# Altium schematic symbol library RK3568_train.SCHLIB: 159 symbols (part 2 of 3)
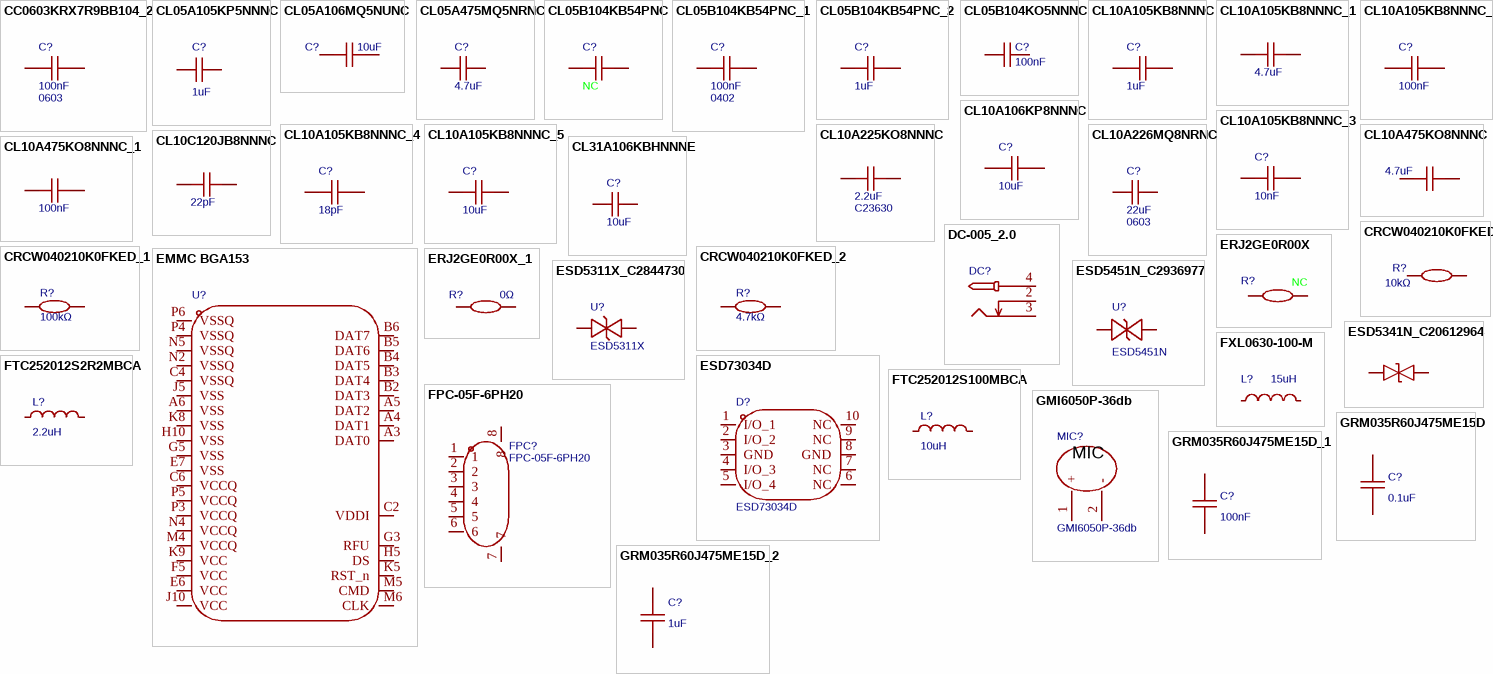
[diagram p12: symbols CC0603KRX7R9BB104_2 to GRM035R60J475ME15D_2]

## ESD73034D
designator D?
极性:双向;反向截止电压(Vrwm):3.3V;钳位电压:18V;峰值脉冲电流(Ipp):3A@8/20us;峰值脉冲功率(Ppp):60W@8/20us;击穿电压:8.5V;; Manufacturer: TECH PUBLIC(台舟); AddInBom: yes; ModelId: bdfd66bff1204c318d65223fd39cc645; ModelName: DFN-10_L2.5-W1.0-P0.50-BL-2; ModelTransform: 40.1574,98.8187,0,90,0,0,0,0,0; Polarity: 双向; Reverse Stand-Off Voltage (Vrwm): 3.3V; Clamping Voltage: 18V; Voltage - Breakdown: 8.5V; Reverse Leakage Current (Ir): 200nA; Number of Channels: 四路; level of protection: IEC 61000-4-5；IEC 61000-4-2; Type: ESD; Junction Capacitance: 0.25pF; Symbol: ESD73034D; Device: ESD73034D; LCSC Part Name: ESD73034D-10/TR; SupplierPart: C7202962; ManufacturerPart: ESD73034D; Supplier Footprint: DFN2510-10; JLCPCB Part Class: 扩展库; Datasheet: https://item.szlcsc.com/datasheet/ESD73034D/8170920.html; Supplier: LCSC; ConvertToPcb: yes; FootprintName: DFN-10_L2.5-W1.0-P0.50-BL-2; Peak Pulse Current (Ipp): 3A@8/20us; Peak Pulse Power Dissipation (Ppp): 60W@8/20us
footprint DFN-10_L2.5-W1.0-P0.50-BL-2
pins: 1 I/O_1, 2 I/O_2, 3 GND, 4 I/O_3, 5 I/O_4, 6 NC, 7 NC, 8 GND, 9 NC, 10 NC

## FPC-05F-6PH20
designator FPC?
锁定特性:翻盖式;触点类型:下接;触点数量:6P;间距:0.5mm;安装类型:卧贴;工作温度范围:-25℃~+85℃;; Manufacturer: XUNPU(讯普); 3D Model: f0153d283bb647ab8cc6ddf5c8ee15be; 3D Model Transform: 291.338,220.472,0,0,0,0,-0.001,-45.276,0; Locking Feature: 翻盖式; Number of Contacts: 6P; Pitch: 0.5mm; FFC, FCB Thickness: 0.3mm; AddInBom: yes; ModelName: FPC-SMD_6P-P0.50_XUNPU_FPC-05F-6PH20; LCSC Part Name: 间距:0.5mm P数:6P 翻盖式 下接; Supplier Part: C2856796; Manufacturer Part: FPC-05F-6PH20; Supplier Footprint: SMD,P=0.5mm,卧贴; JLCPCB Part Class: 扩展库; Datasheet: https://atta.szlcsc.com/upload/public/pdf/source/20210922/16B003FB53336DDF6538142CC465AC4D.pdf; Supplier: LCSC; Contact Type: 下接; Mounting Type: 卧贴; Height Above Board: 2mm; Operating Temperature Range: -25℃~+85℃; Symbol: FPC-05F-6PH20; Device: FPC-05F-6PH20; ConvertToPcb: yes; FootprintName: FPC-SMD_6P-P0.50_XUNPU_FPC-05F-6PH20
footprint FPC-SMD_6P-P0.50_XUNPU_FPC-05F-6PH20
3D model FPC-SMD_6P-P0.50_XUNPU_FPC-05F-6PH20
pins: 1, 2, 3, 4, 5, 6, 7, 8

## FTC252012S2R2MBCA
designator L?, comment 2.2uH
电感值:2.2uH;精度:±20%;额定电流:3A;饱和电流(Isat):3.8A;类型:一体成型电感;; Manufacturer: cjiang(长江微电); Symbol: FTC252012S2R2MBCA; AddInBom: yes; ModelId: 37a0cdb2b8b148059a23edc55a737e42; ModelName: IND-SMD_L2.5-W2.0_MHCHL2520; ModelTransform: 98.425,78.74,0,0,0,0,0,0,0; Tolerance: ±20%; Rated Current: 3A; Saturation Current (Isat): 3.8A; DC Resistance (DCR): 55mΩ; Type: 一体成型电感; Device: FTC252012S2R2MBCA; LCSC Part Name: 2.2uH ±20% 3.8A; SupplierPart: C5832372; ManufacturerPart: FTC252012S2R2MBCA; Supplier Footprint: 1008; JLCPCB Part Class: 扩展库; Datasheet: https://atta.szlcsc.com/upload/public/pdf/source/20230602/8FFEDA9C0247A92A0D4B67554BFE4091.pdf; Supplier: LCSC; ConvertToPcb: yes; FootprintName: IND-SMD_L2.5-W2.0_MHCHL2520; Value: 2.2uH
footprint IND-SMD_L2.5-W2.0_MHCHL2520
pins: 1, 2

## FTC252012S100MBCA
designator L?, comment 10uH
电感值:10uH;精度:±20%;额定电流:1.2A;饱和电流(Isat):1.6A;类型:一体成型电感;; Manufacturer: cjiang(长江微电); Symbol: FTC252012S100MBCA; AddInBom: yes; ModelId: 85d117b4abb34d9087271edcd9ba0330; ModelName: IND-SMD_L2.5-W2.0-H1.2; ModelTransform: 99.2124,78.74,0,0,0,0,0,0,0; Tolerance: ±20%; Rated Current: 1.2A; Saturation Current (Isat): 1.6A; DC Resistance (DCR): 330mΩ; Type: 一体成型电感; Device: FTC252012S100MBCA; LCSC Part Name: 10uH ±20% 1.6A; SupplierPart: C5832376; ManufacturerPart: FTC252012S100MBCA; Supplier Footprint: SMD,2x2.5mm; JLCPCB Part Class: 扩展库; Datasheet: https://atta.szlcsc.com/upload/public/pdf/source/20230602/8FFEDA9C0247A92A0D4B67554BFE4091.pdf; Supplier: LCSC; ConvertToPcb: yes; FootprintName: IND-SMD_L2.5-W2.0; Value: 10uH
footprint IND-SMD_L2.5-W2.0
pins: 1, 2

## FXL0630-100-M
designator L?, comment 15uH
电感值:10uH;精度:±20%;额定电流:4.5A;饱和电流(Isat):5.5A;类型:一体成型电感;; Manufacturer: cjiang(长江微电); Symbol: FXL0630-100-M; AddInBom: yes; ModelId: e28854526ca747668ea12fbe1dd39a63; ModelName: IND-SMD_L7.3-W6.8-H3.0; ModelTransform: 292.125,267.716,0,0,0,0,0,0,0; Tolerance: ±20%; Rated Current: 4.5A; Saturation Current (Isat): 5.5A; DC Resistance (DCR): 68mΩ; Type: 一体成型电感; Value: 15uH; Device: FXL0630-100-M; LCSC Part Name: 10uH ±20% 5.5A; ManufacturerPart: FXL0630-100-M; Supplier Footprint: SMD,6.6x7mm; JLCPCB Part Class: 扩展库; Datasheet: https://atta.szlcsc.com/upload/public/pdf/source/20240426/3189EA8206330E2108542F9E34E540E7.pdf; Supplier: LCSC; ConvertToPcb: yes; FootprintName: IND-SMD_L7.3-W6.8; Ratings: -
footprint IND-SMD_L7.3-W6.8
pins: 1, 2

## GMI6050P-36db
designator MIC?
Manufacturer: INGHAi(赢海); AddInBom: yes; ModelId: 13bff40b06b543799f1cf39aeb3f973a聨0819f05c4eef4c71ace90d822a990e87; ModelName: MIC-TH_BD6.0-P1.90-D0.4-L-FD_GMI6050P-2CXXDB; ModelTransform: 236.22,235.915,0,0,0,0,0,-0.003,-118.11; Symbol: GMI6050P-36DB; Device: GMI6050P-36db; LCSC Part Name: 全指向φ6.0*5.0mm 1.5V-10V 灵敏度-36db 低阻抗 针脚; SupplierPart: C233939; ManufacturerPart: GMI6050P-36db; Supplier Footprint: 插件,D=6mm; JLCPCB Part Class: Extended Part; Datasheet: https://atta.szlcsc.com/upload/public/pdf/source/20180613/C233951_CF3F103FE3546E5F8FCD1BC0597FF08F.pdf; Supplier: LCSC; ConvertToPcb: yes; FootprintName: MIC-TH_BD6.0-P1.90-D0.4-L-FD_GMI6050P-2CXXDB
footprint MIC-TH_BD6.0-P1.90-D0.4-L-FD_GMI6050P-2CXXDB
pins: 1 +, 2 -
text: MIC

## GRM035R60J475ME15D
designator C?, comment 0.1uF
容值:4.7uF;精度:±20%;额定电压:6.3V;温度系数:X5R;; Manufacturer: muRata(村田); Symbol: GRM035R60J475ME15D; AddInBom: yes; ModelId: e8033a7cb35143ffb28e3b81b2577ea0; ModelName: C0201_L0.6-W0.3-H0.3; ModelTransform: 23.622,11.811,0,0,0,0,0,0,0; Tolerance: ±20%; Voltage Rating: 6.3V; Temperature Coefficient: X5R; Value: 0.1uF; Device: GRM035R60J475ME15D; LCSC Part Name: 4.7uF ±20% 6.3V; ManufacturerPart: GRM035R60J475ME15D; Supplier Footprint: 0201; JLCPCB Part Class: Extended Part; Datasheet: https://item.szlcsc.com/datasheet/GRM035R60J475ME15D/313624.html; Supplier: LCSC; ConvertToPcb: yes; FootprintName: C0201
footprint C0201
pins: 1, 2

## GRM035R60J475ME15D_1
designator C?, comment 100nF
容值:4.7uF;精度:±20%;额定电压:6.3V;温度系数:X5R;; Manufacturer: muRata(村田); Symbol: GRM035R60J475ME15D; AddInBom: yes; ModelId: e8033a7cb35143ffb28e3b81b2577ea0; ModelName: C0201_L0.6-W0.3-H0.3; ModelTransform: 23.622,11.811,0,0,0,0,0,0,0; Tolerance: ±20%; Voltage Rating: 6.3V; Temperature Coefficient: X5R; Value: 100nF; Device: GRM035R60J475ME15D; LCSC Part Name: 4.7uF ±20% 6.3V; ManufacturerPart: GRM035R60J475ME15D; Supplier Footprint: 0201; JLCPCB Part Class: Extended Part; Datasheet: https://item.szlcsc.com/datasheet/GRM035R60J475ME15D/313624.html; Supplier: LCSC; ConvertToPcb: yes; FootprintName: C0201
footprint C0201
pins: 1, 2

## GRM035R60J475ME15D_2
designator C?, comment 1uF
容值:4.7uF;精度:±20%;额定电压:6.3V;温度系数:X5R;; Manufacturer: muRata(村田); Symbol: GRM035R60J475ME15D; AddInBom: yes; ModelId: e8033a7cb35143ffb28e3b81b2577ea0; ModelName: C0201_L0.6-W0.3-H0.3; ModelTransform: 23.622,11.811,0,0,0,0,0,0,0; Tolerance: ±20%; Voltage Rating: 6.3V; Temperature Coefficient: X5R; Value: 1uF; Device: GRM035R60J475ME15D; LCSC Part Name: 4.7uF ±20% 6.3V; ManufacturerPart: GRM035R60J475ME15D; Supplier Footprint: 0201; JLCPCB Part Class: Extended Part; Datasheet: https://item.szlcsc.com/datasheet/GRM035R60J475ME15D/313624.html; Supplier: LCSC; ConvertToPcb: yes; FootprintName: C0201
footprint C0201
pins: 1, 2

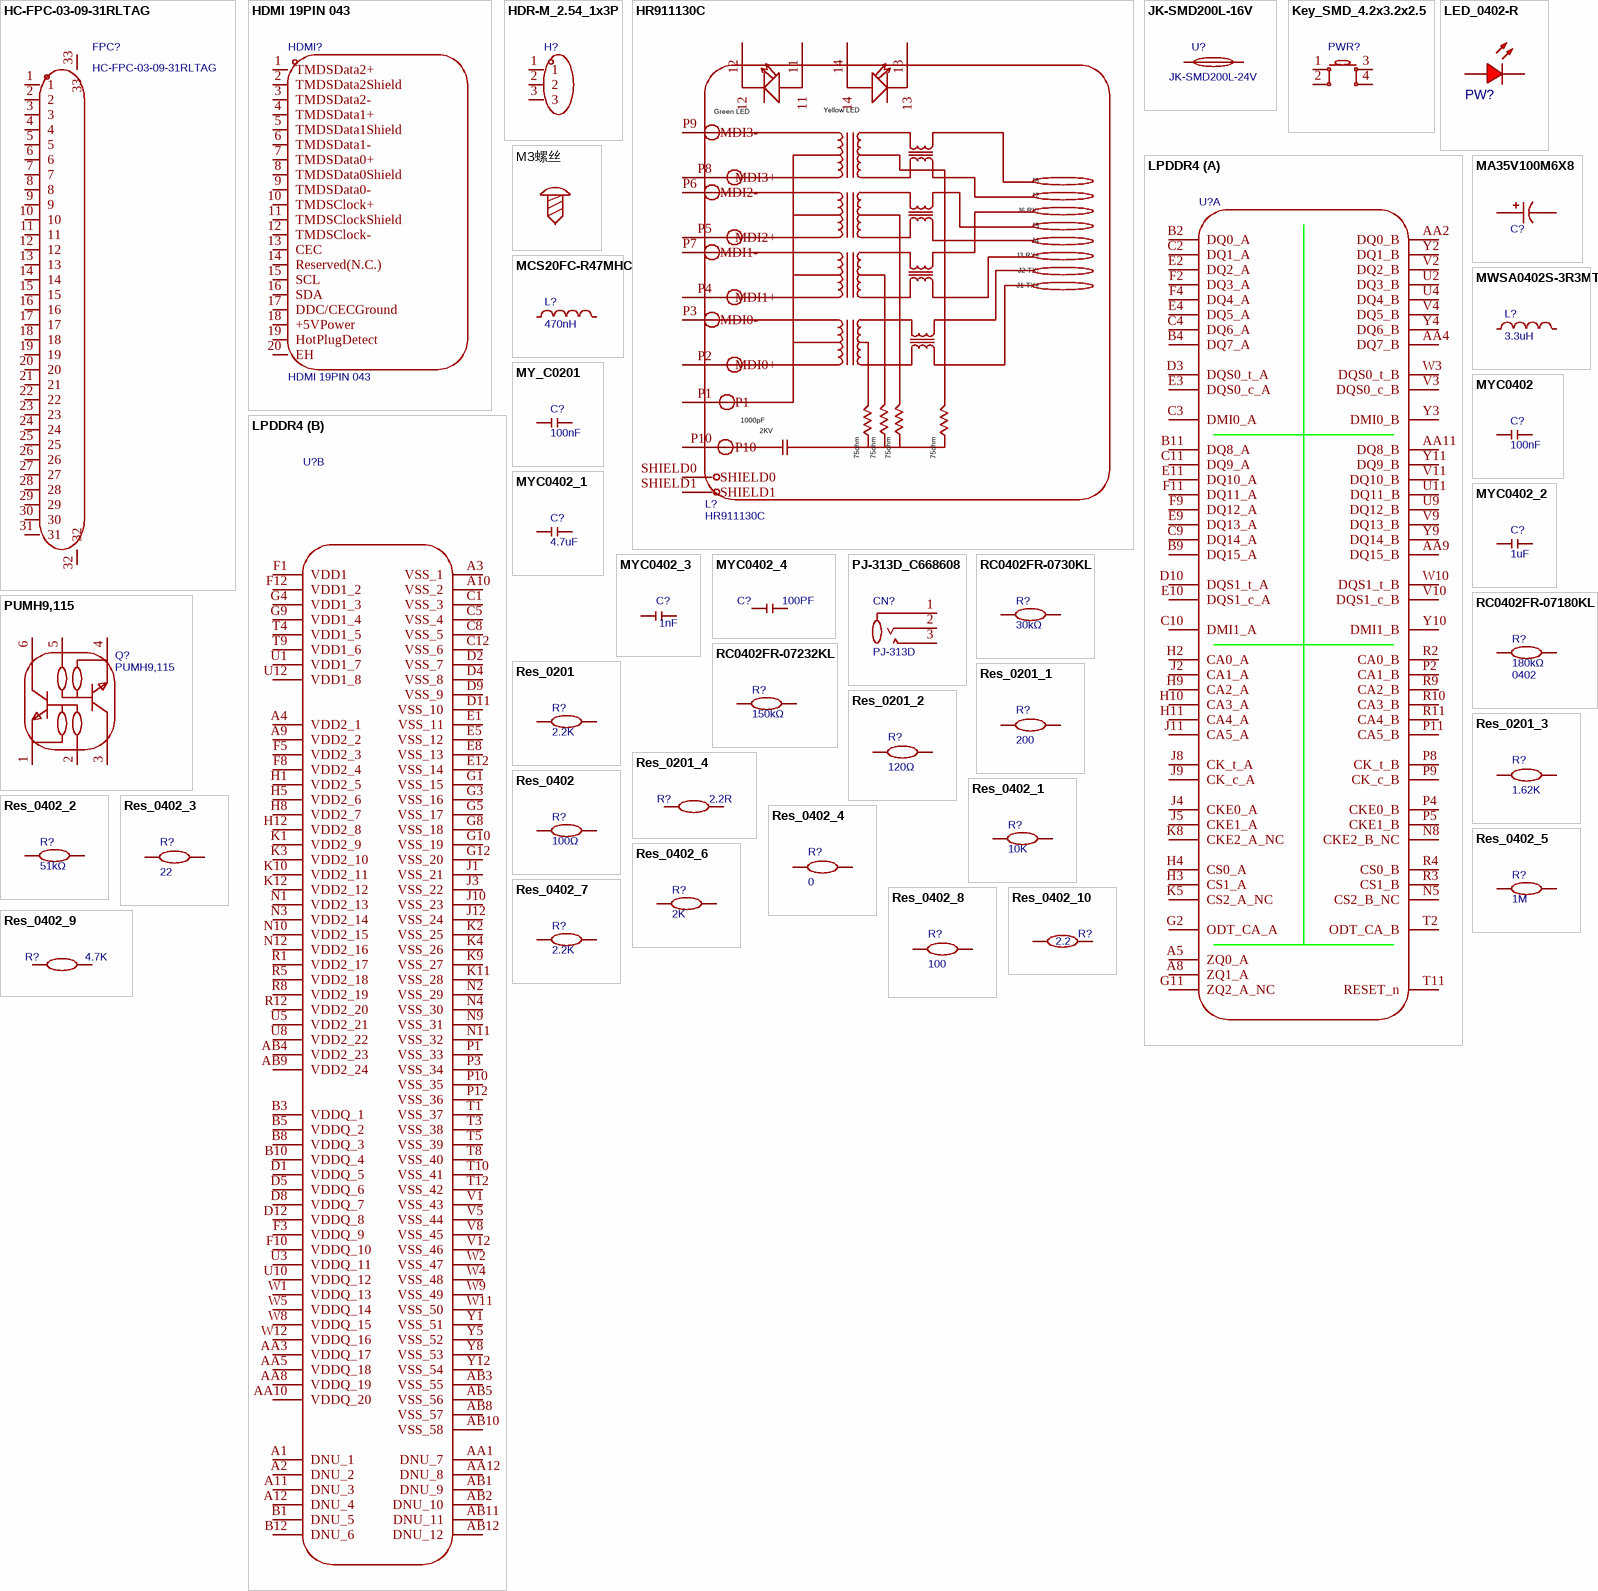
[diagram p2: symbols HC-FPC-03-09-31RLTAG to Res_0402_10]

## HC-FPC-03-09-31RLTAG
designator FPC?
锁定特性:翻盖式;触点类型:下接;触点数量:31P;间距:0.3mm;安装方式:卧贴;工作温度:-55℃~+85℃;; Manufacturer: HCTL(华灿天禄); AddInBom: yes; ModelId: 8147d33ff0454235b0911f8aacb2567f; ModelName: FPC-SMD_31P-P0.30_HC-FPC-03-09-31RLTAG; ModelTransform: 453.1487,167.3225,0,0,0,0,0,-13.78,0; Locking Feature: 翻盖式; Number of Contacts: 31P; Pitch: 0.3mm; FFC, FCB Thickness: 0.2mm; Symbol: HC-FPC-03-09-31RLTAG; Device: HC-FPC-03-09-31RLTAG; LCSC Part Name: 翻盖式 下接 P数:31P 间距:0.3mm; SupplierPart: C5213720; ManufacturerPart: HC-FPC-03-09-31RLTAG; Supplier Footprint: SMD,P=0.3mm,卧贴; JLCPCB Part Class: 扩展库; Datasheet: https://item.szlcsc.com/datasheet/HC-FPC-03-09-31RLTAG/5909012.html; Supplier: LCSC; ConvertToPcb: yes; FootprintName: FPC-SMD_31P-P0.30_HC-FPC-03-09-31RLTAG; Contact Type: 下接; Mounting Type: 卧贴; Height Above Board: 1mm; Contact Material: 磷青铜; Operating Temperature: -55℃~+85℃
footprint FPC-SMD_31P-P0.30_HC-FPC-03-09-31RLTAG
pins: 1, 2, 3, 4, 5, 6, 7, 8, 9, 10, 11, 12, 13, 14, 15, 16, 17, 18, 19, 20, 21, 22, 23, 24, 25, 26, 27, 28, 29, 30, 31, 32, 33

## HDMI 19PIN 043
designator HDMI?
USB母座/HD-MI 19PIN母座 4脚插件 贴片19PIN 铁壳镀镍; Manufacturer: SHOU HAN(首韩); AddInBom: yes; ModelId: c61f66854239499383675c08a93d807c; ModelName: HDMI-SMD_HDMI-9PIN-043; ModelTransform: 590.55,474.4085,0,0,0,0,0,-71.654,-78.74; Connector Type: HDMI-A; Gender: 母; Current Rating (Max): 300mA; Rated Voltage (Max): 40V; Symbol: HDMI 19PIN 043; Device: HDMI 19PIN 043; LCSC Part Name: HDMI 19PIN 043; SupplierPart: C2858275; ManufacturerPart: HDMI 19PIN 043; Supplier Footprint: SMD; JLCPCB Part Class: 扩展库; Datasheet: https://atta.szlcsc.com/upload/public/pdf/source/20210728/C2858275_DF299413048A9CF092C2A61AB97004F4.pdf; Supplier: LCSC; ConvertToPcb: yes; FootprintName: HDMI-SMD_HDMI-19PIN-043; Number of Pins: 19P; Mounting Style: 卧贴; Operating Temperature Range: -55℃~+85℃
footprint HDMI-SMD_HDMI-19PIN-043
pins: 1 TMDSData2+, 2 TMDSData2Shield, 3 TMDSData2-, 4 TMDSData1+, 5 TMDSData1Shield, 6 TMDSData1-, 7 TMDSData0+, 8 TMDSData0Shield, 9 TMDSData0-, 10 TMDSClock+, 11 TMDSClockShield, 12 TMDSClock-, 13 CEC, 14 Reserved(N.C.), 15 SCL, 16 SDA, 17 DDC/CECGround, 18 +5VPower, 19 HotPlugDetect, 20 EH

## HDR-M_2.54_1x3P
designator H?
Symbol: HDR-M_2.54_1x3P; AddInBom: yes; ModelId: bb473b6d38ff42a99216a4fcdbdcc4cb; ModelName: HDR-TH_3P-P2.54-M-LI-1X3P; ModelTransform: 299.9993964861481,99.99979882871602,454.3297999999999,0,0,0,0,0,-118.11024; Device: HDR-M_2.54_1x3P; ConvertToPcb: yes; FootprintName: HDR-TH_3P-P2.54-V-M; SupplierPart: C2937625; Supplier Footprint: 插件
footprint HDR-TH_3P-P2.54-V-M
pins: 1, 2, 3

## HR911130C
designator L?
连接器类型:RJ45插座;端口数量:1;安装方式:弯插;屏蔽:有屏蔽;LED:带LED;等级:-;工作温度范围:-;; Manufacturer: HANRUN(汉仁); AddInBom: yes; ModelId: 59c82772a4104c30b0c5165fbd81f083; ModelName: RJ45-TH_HR911130C; ModelTransform: 716.118,838.62,0,180,0,0,0,86.614,-157.48; Connector Type: RJ45插座; Number of Ports: 1; Shielding: 有屏蔽; LED: 带LED; Symbol: HR911130C; Device: HR911130C; LCSC Part Name: 弯插 带LED; SupplierPart: C50933; ManufacturerPart: HR911130C; Supplier Footprint: 插件; JLCPCB Part Class: 扩展库; Datasheet: https://atta.szlcsc.com/upload/public/pdf/source/20240108/FEC80AF9B295891E58BF4ACD53537D33.pdf; Supplier: LCSC; ConvertToPcb: yes; FootprintName: RJ45-TH_HR911130C; Mounting Style: 弯插; Ratings: -; Operating Temperature Range: -
footprint RJ45-TH_HR911130C
pins: 11, 12, 13, 14, P1, P2 MDI0+, P3 MDI0-, P4 MDI1+, P5 MDI2+, P6 MDI2-, P7 MDI1-, P8 MDI3+, P9 MDI3-, P10, SHIELD0, SHIELD1
text: Green LED; Yellow LED; J8; J7; J6 RX-; J5; J4; J3 RX+; J2 TX-; J1 TX+; 1000pF; 75ohm; 2KV

## JK-SMD200L-16V
designator U?, comment JK-SMD200L-24V
Manufacturer: JK(金科); Symbol: JK-SMD200L-16V; AddInBom: yes; ModelId: c20979b6eed84fe694c25fdbe1326c05; ModelName: F2920-1; ModelTransform: 289.7632,201.5744,0,0,0,0,0,0,0; Manufacturer Part: JK-SMD200L-24V; Device: JK-SMD200L-16V; LCSC Part Name: 贴片保险丝 2920 2A 16V 自恢复保险丝; SupplierPart: C369176; Supplier Footprint: 2920; JLCPCB Part Class: 扩展库; Supplier: LCSC; ConvertToPcb: yes; FootprintName: F2920
footprint F2920
pins: 1, 2

## Key_SMD_4.2x3.2x2.5
designator PWR?
Symbol: 轻触按键; Device: Key_SMD_4.2x3.2x2.5; ConvertToPcb: yes; ModelId: 38f4e5ae1c0a49d7a4c1f95a650cdbea聨0819f05c4eef4c71ace90d822a990e87; ModelName: KEY-SMD_4P-L4.2-W3.2-H2.5-LS4.6-P2.2; ModelTransform: 184.97,125.98,98.82,0,0,0,0,0,0; AddInBom: yes; Supplier Footprint: SMD; FootprintName: Key_SMD_4.2x3.2x2.5
footprint Key_SMD_4.2x3.2x2.5
pins: 1, 2, 3, 4

## LED_0402-R
designator PW?
Symbol: LED_R; Device: LED_0402-R; Convert to PCB: yes; 3D Model: ff479c6f784e45d5abe8f8ff531b4a70; 3D Model Transform: 39.4,19.7,15.76,180,0,0,0,0,0; ModelName: LED0402-RD_ORANGE; Add into BOM: yes; Supplier Footprint: 0402; FootprintName: LED_0402
footprint LED_0402
pins: 1 C, 2 A

## LPDDR4
designator U?  (value not drawn)
Check: false; AddInBom: yes; Device: LPDDR4; ConvertToPcb: yes; SymbolName: LPDDR4; FootprintName: LPDDR4_MrX
footprint LPDDR4_MrX
part A pins: A5 ZQ0_A, A8 ZQ1_A, AA2 DQ0_B, AA4 DQ7_B, AA9 DQ15_B, AA11 DQ8_B, B2 DQ0_A, B4 DQ7_A, B9 DQ15_A, B11 DQ8_A, C2 DQ1_A, C3 DMI0_A, C4 DQ6_A, C9 DQ14_A, C10 DMI1_A, C11 DQ9_A, D3 DQS0_t_A, D10 DQS1_t_A, E2 DQ2_A, E3 DQS0_c_A, E4 DQ5_A, E9 DQ13_A, E10 DQS1_c_A, E11 DQ10_A, F2 DQ3_A, F4 DQ4_A, F9 DQ12_A, F11 DQ11_A, G2 ODT_CA_A, G11 ZQ2_A_NC, H2 CA0_A, H3 CS1_A, H4 CS0_A, H9 CA2_A, H10 CA3_A, H11 CA4_A, J2 CA1_A, J4 CKE0_A, J5 CKE1_A, J8 CK_t_A, J9 CK_c_A, J11 CA5_A, K5 CS2_A_NC, K8 CKE2_A_NC, N5 CS2_B_NC, N8 CKE2_B_NC, P2 CA1_B, P4 CKE0_B, P5 CKE1_B, P8 CK_t_B, P9 CK_c_B, P11 CA5_B, R2 CA0_B, R3 CS1_B, R4 CS0_B, R9 CA2_B, R10 CA3_B, R11 CA4_B, T2 ODT_CA_B, T11 RESET_n, U2 DQ3_B, U4 DQ4_B, U9 DQ12_B, U11 DQ11_B, V2 DQ2_B, V3 DQS0_c_B, V4 DQ5_B, V9 DQ13_B, V10 DQS1_c_B, V11 DQ10_B, W3 DQS0_t_B, W10 DQS1_t_B, Y2 DQ1_B, Y3 DMI0_B, Y4 DQ6_B, Y9 DQ14_B, Y10 DMI1_B, Y11 DQ9_B
part B pins: A1 DNU_1, A2 DNU_2, A3 VSS_1, A4 VDD2_1, A9 VDD2_2, A10 VSS_2, A11 DNU_3, A12 DNU_4, AA1 DNU_7, AA3 VDDQ_17, AA5 VDDQ_18, AA8 VDDQ_19, AA10 VDDQ_20, AA12 DNU_8, AB1 DNU_9, AB2 DNU_10, AB3 VSS_55, AB4 VDD2_23, AB5 VSS_56, AB8 VSS_57, AB9 VDD2_24, AB10 VSS_58, AB11 DNU_11, AB12 DNU_12, B1 DNU_5, B3 VDDQ_1, B5 VDDQ_2, B8 VDDQ_3, B10 VDDQ_4, B12 DNU_6, C1 VSS_3, C5 VSS_4, C8 VSS_5, C12 VSS_6, D1 VDDQ_5, D2 VSS_7, D4 VSS_8, D5 VDDQ_6, D8 VDDQ_7, D9 VSS_9, D11 VSS_10, D12 VDDQ_8, E1 VSS_11, E5 VSS_12, E8 VSS_13, E12 VSS_14, F1 VDD1, F3 VDDQ_9, F5 VDD2_3, F8 VDD2_4, F10 VDDQ_10, F12 VDD1_2, G1 VSS_15, G3 VSS_16, G4 VDD1_3, G5 VSS_17, G8 VSS_18, G9 VDD1_4, G10 VSS_19, G12 VSS_20, H1 VDD2_5, H5 VDD2_6, H8 VDD2_7, H12 VDD2_8, J1 VSS_21, J3 VSS_22, J10 VSS_23, J12 VSS_24, K1 VDD2_9, K2 VSS_25, K3 VDD2_10, K4 VSS_26, K9 VSS_27, K10 VDD2_11, K11 VSS_28, K12 VDD2_12, N1 VDD2_13, N2 VSS_29, N3 VDD2_14, N4 VSS_30, N9 VSS_31, N10 VDD2_15, N11 VSS_32, N12 VDD2_16, P1 VSS_33, P3 VSS_34, P10 VSS_35, P12 VSS_36, R1 VDD2_17, R5 VDD2_18, R8 VDD2_19, R12 VDD2_20, T1 VSS_37, T3 VSS_38, T4 VDD1_5, T5 VSS_39, T8 VSS_40, T9 VDD1_6, T10 VSS_41, T12 VSS_42, U1 VDD1_7, U3 VDDQ_11, U5 VDD2_21, U8 VDD2_22, U10 VDDQ_12, U12 VDD1_8, V1 VSS_43, V5 VSS_44, V8 VSS_45, V12 VSS_46, W1 VDDQ_13, W2 VSS_47, W4 VSS_48, W5 VDDQ_14, W8 VDDQ_15, W9 VSS_49, W11 VSS_50, W12 VDDQ_16, Y1 VSS_51, Y5 VSS_52, Y8 VSS_53, Y12 VSS_54

## M3螺丝
designator SCREW?
Symbol: 螺丝孔; Device: M3螺丝; ConvertToPcb: yes; Supplier Footprint: 插件; AddInBom: yes; FootprintName: M3螺丝
footprint M3螺丝
pins: 1

## MA35V100M6X8
designator C?, comment 100uF  (value not drawn)
容值:100uF;精度:±20%;额定电压:35V;纹波电流:2.9A@100kHz;等效串联电阻(ESR):30mΩ@100kHz;类型:聚合物;; Manufacturer: 捷而瑞; Symbol: MA35V100M6X8; AddInBom: yes; ModelId: 901941a22e384f799727a46cfda77174; ModelName: CAP-SMD_L6.6-W6.6-H7.0-LS7.2; ModelTransform: 307.086,259.842,0,0,0,0,0,0,0; Tolerance: ±20%; Voltage Rating: 35V; Type: 聚合物; Lifetime: 2000hrs@105℃; Device: MA35V100M6X8; LCSC Part Name: 100uF ±20% 35V; SupplierPart: C46550467; ManufacturerPart: MA35V100M6X8; Supplier Footprint: SMD,D6.3xL7.7mm; JLCPCB Part Class: 扩展库; Datasheet: https://item.szlcsc.com/datasheet/MA35V100M6X8/48680161.html; Supplier: LCSC; ConvertToPcb: yes; FootprintName: CAP-SMD_BD6.3-L6.6-W6.6-RD; Value: 100uF; Ripple Current: 2.9A@100kHz; Equivalent Series Resistance(ESR): 30mΩ@100kHz; Diameter: 6.3mm; Height - Seated (Max): 7mm; Operating Temperature: -55℃~+105℃
footprint CAP-SMD_BD6.3-L6.6-W6.6-RD
pins: 1, 2

## MCS20FC-R47MHC
designator L?, comment 470nH
电感值:470nH;精度:±20%;额定电流:4.05A;; Manufacturer: PSA(信昌电陶); Device: MCS20FC-R47MHC; AddInBom: yes; ModelId: 668c12c5c4cf45ec81ccaa044c30b915; ModelName: IND-SMD_L2.0-W1.6_MHCHL201610A-1R0M-Q8A; ModelTransform: 79.527,63.7794,0,0,0,0,0,0,0; Tolerance: ±20%; Rated Current: 4.05A; DC Resistance (DCR): 23mΩ; Symbol: MCS20FC-R47MHC; LCSC Part Name: 470nH ±20% 4.05A 23mΩ; SupplierPart: C375941; ManufacturerPart: MCS20FC-R47MHC; Supplier Footprint: SMD; JLCPCB Part Class: 扩展库; Datasheet: https://atta.szlcsc.com/upload/public/pdf/source/20190312/C375941_0FA6931C341ECE1823B3912EFF81D587.pdf; Supplier: LCSC; ConvertToPcb: yes; FootprintName: IND-SMD_L2.0-W1.6_MHCHL201610A-1R0M-Q8A; Value: 470nH
footprint IND-SMD_L2.0-W1.6_MHCHL201610A-1R0M-Q8A
pins: 1, 2

## MWSA0402S-3R3MT
designator L?, comment 3.3uH
额定电流:3.3A;精度:±20%;电感值:3.3uH;直流电阻(DCR):87mΩ;; Manufacturer: Sunlord(顺络); Symbol: SWPA4030S4R7MT; Device: MWSA0402S-3R3MT; AddInBom: yes; ModelId: e9b3d3f4fa134185b54d517730715f16; ModelName: IND-SMD_L4.2-W4.4-H2.0; ModelTransform: 173.228,165.354,0,0,0,0,0,0,0; Rated Current: 3.3A; Tolerance: ±20%; DC Resistance (DCR): 87mΩ; LCSC Part Name: 3.3uH ±20%; SupplierPart: C408336; ManufacturerPart: MWSA0402S-3R3MT; Supplier Footprint: SMD; JLCPCB Part Class: Extended Part; Datasheet: https://atta.szlcsc.com/upload/public/pdf/source/20190729/C408336_17B5BB1DF2845DE8F323BD9CE9EEFEBA.pdf; Supplier: LCSC; ConvertToPcb: yes; FootprintName: IND-SMD_L4.4-W4.2; Height: 2mm; Width: 4.4mm; Value: 3.3uH; Length: 4.2mm
footprint IND-SMD_L4.4-W4.2
pins: 1, 2

## MY_C0201
designator C?, comment 100nF
my0201; Symbol: MY_C0201; AddInBom: yes; ModelId: 7899b263465b4be781422057da338961聨0819f05c4eef4c71ace90d822a990e87; ModelName: C0201; ModelTransform: 23.622000938653944,11.811000469326972,11.811000469326972,0,0,0,0,0,0; Device: MY_C0201; Value: 100nF; FootprintName: MYC0201; ConvertToPcb: yes
footprint MYC0201
pins: 1, 2

## MYC0402
designator C?, comment 100nF
C0402电容; Symbol: MY_C0201; Device: MYC0402; AddInBom: yes; Value: 100nF; ConvertToPcb: yes; FootprintName: MYC0402
footprint MYC0402
pins: 1, 2

## MYC0402_1
designator C?, comment 4.7uF
C0402电容; Symbol: MY_C0201; Device: MYC0402; AddInBom: yes; Value: 4.7uF; ConvertToPcb: yes; FootprintName: MYC0402
footprint MYC0402
pins: 1, 2

## MYC0402_2
designator C?, comment 1uF
C0402电容; Symbol: MY_C0201; Device: MYC0402; AddInBom: yes; Value: 1uF; ConvertToPcb: yes; FootprintName: MYC0402
footprint MYC0402
pins: 1, 2

## MYC0402_3
designator C?, comment 1nF
C0402电容; Symbol: MY_C0201; Device: MYC0402; AddInBom: yes; Value: 1nF; ConvertToPcb: yes; FootprintName: MYC0402
footprint MYC0402
pins: 1, 2

## MYC0402_4
designator C?, comment 100PF
C0402电容; Symbol: MY_C0201; Device: MYC0402; AddInBom: yes; Value: 100PF; ConvertToPcb: yes; FootprintName: MYC0402
footprint MYC0402
pins: 1, 2

## PJ-313D_C668608
designator CN?, comment PJ-313D
连接器类型:3.5mm耳机座;额定电流:500mA;额定电压:30V;触头材质:铜;触头镀层:银;工作温度范围:-30℃~+70℃;; Manufacturer: SHOU HAN(首韩); Symbol: PJ-313D_C668608; AddInBom: yes; ModelId: 4c414bff0d4f41fcb665cbf6b08ddc6c; ModelName: AUDIO-SMD_PJ-313D-2; ModelTransform: 334.645,551.18,0,0,0,0,0,19.685,-19.685; Current Rating (Max): 500mA; Voltage Rating (Max): 30V; Device: PJ-313D_C668608; LCSC Part Name: 3.5mm耳机座; SupplierPart: C668608; ManufacturerPart: PJ-313D; Supplier Footprint: SMD; JLCPCB Part Class: 扩展库; Datasheet: https://atta.szlcsc.com/upload/public/pdf/source/20200618/C668608_AB2020DBBA26E8897834D328F2FA3C40.pdf; Supplier: LCSC; ConvertToPcb: yes; FootprintName: AUDIO-SMD_PJ-313D-2; Connector Type: 3.5mm耳机座; Contact Material: 铜; Contact Plating: 银; Operating Temperature Range: -30℃~+70℃
footprint AUDIO-SMD_PJ-313D-2
pins: 1, 2, 3

## PUMH9,115
designator Q?
晶体管类型:-;集射极击穿电压(Vceo):50V;集电极电流(Ic):100mA;功率(Pd):200mW;直流电流增益(hFE@Ic,Vce):100@5mA,5V;; Manufacturer: Nexperia(安世); AddInBom: yes; ModelId: ea15c7b026c54341854a7f0d9614aed9; ModelName: SOT-363-6P_L2.0-W1.3-H1.1-LS2.0-P0.65; ModelTransform: 83.17133,78.74,0,90,0,0,0,0,0; Collector-Emitter Breakdown Voltage (Vceo): 50V; Collector Current (Ic): 100mA; Power Dissipation (Pd): 200mW; Input Voltage (VI(on)@Ic,Vce): 800mV@1mA,0.3V; Input Voltage (VI(off)@Ic,Vce): 700mV@100uA,5V; Input Resistor: 10kΩ; Resistor Ratio: 4.7; Symbol: PUMH9,115; Device: PUMH9,115; LCSC Part Name: 耐压:50V 电流:100mA; SupplierPart: C426876; ManufacturerPart: PUMH9,115; Supplier Footprint: SOT-363; JLCPCB Part Class: 扩展库; Datasheet: https://atta.szlcsc.com/upload/public/pdf/source/20240724/03256FD06240C401B0BD478BA06DFF99.pdf; Supplier: LCSC; ConvertToPcb: yes; FootprintName: SOT-363_L2.0-W1.3-P0.65-LS2.1-BL; Transistor Type: -; DC Current Gain (hFE@Ic,Vce): 100@5mA,5V; Operating Temperature: -55℃~+150℃
footprint SOT-363_L2.0-W1.3-P0.65-LS2.1-BL
pins: 1 E1, 2 B1, 3 C2, 4 E2, 5 B2, 6 C1

## RC0402FR-0730KL
designator R?, comment 30kΩ
电阻类型:厚膜电阻;阻值:30kΩ;精度:±1%;功率:62.5mW;; Manufacturer: YAGEO(国巨); Symbol: 0402WGF5102TCE; Device: RC0402FR-0730KL; AddInBom: yes; ModelId: 671aefced39d4c318694bba8bd8efd39; ModelName: R0402_L1.0-W0.5-H0.5; ModelTransform: 39.37,19.685,0,0,0,0,0,0.0005,0; Tolerance: ±1%; Power(Watts): 62.5mW; Temperature Coefficient: ±100ppm/℃; Overload Voltage (Max): 50V; Value: 30kΩ; LCSC Part Name: 30kΩ ±1% 62.5mW; SupplierPart: C138008; ManufacturerPart: RC0402FR-0730KL; Supplier Footprint: 0402; JLCPCB Part Class: Extended Part; Datasheet: https://atta.szlcsc.com/upload/public/pdf/source/20171107/C138008_15100516356731096935.pdf; Supplier: LCSC; ConvertToPcb: yes; FootprintName: R0402; Type: 厚膜电阻; Operating Temperature Range: -55℃~+155℃
footprint R0402
pins: 1, 2

## RC0402FR-07180KL
designator R?, comment 180kΩ  Supplier Footprint: 0402
电阻类型:厚膜电阻;阻值:180kΩ;精度:±1%;功率:62.5mW;温度系数:±100ppm/℃;最大工作电压:50V;工作温度范围:-55℃~+155℃;; Manufacturer: YAGEO(国巨); Device: RC0402FR-07180KL; AddInBom: yes; ModelId: 671aefced39d4c318694bba8bd8efd39; ModelName: R0402_L1.0-W0.5-H0.5; ModelTransform: 39.37,19.685,0,0,0,0,0,0.0005,0; Tolerance: ±1%; Power(Watts): 62.5mW; Overload Voltage (Max): 50V; Symbol: RC0402FR-07180KL; LCSC Part Name: 180kΩ ±1% 62.5mW; SupplierPart: C138046; ManufacturerPart: RC0402FR-07180KL; JLCPCB Part Class: Extended Part; Datasheet: https://atta.szlcsc.com/upload/public/pdf/source/20171107/C138046_15100516638711096969.pdf; Supplier: LCSC; ConvertToPcb: yes; FootprintName: R0402; Type: 厚膜电阻; Value: 180kΩ; Temperature Coefficient: ±100ppm/℃; Operating Temperature Range: -55℃~+155℃
footprint R0402
pins: 1, 2

## RC0402FR-07232KL
designator R?, comment 150kΩ
电阻类型:厚膜电阻;阻值:232kΩ;精度:±1%;功率:62.5mW;; Manufacturer: YAGEO(国巨); Symbol: 0402WGF2323TCE; Device: RC0402FR-07232KL; AddInBom: yes; ModelId: 671aefced39d4c318694bba8bd8efd39; ModelName: R0402_L1.0-W0.5-H0.5; ModelTransform: 39.37,19.685,0,0,0,0,0,0.0005,0; Tolerance: ±1%; Power(Watts): 62.5mW; Temperature Coefficient: ±100ppm/℃; Overload Voltage (Max): 50V; Value: 150kΩ; LCSC Part Name: 232kΩ ±1% 62.5mW; ManufacturerPart: RC0402FR-07232KL; Supplier Footprint: 0402; JLCPCB Part Class: Extended Part; Datasheet: https://atta.szlcsc.com/upload/public/pdf/source/20181009/C309542_CA3F4488430805647C87B9489F02B718.pdf; Supplier: LCSC; ConvertToPcb: yes; FootprintName: R0402; Type: 厚膜电阻; Operating Temperature Range: -55℃~+155℃
footprint R0402
pins: 1, 2

## Res_0201
designator R?, comment 2.2K  (graphical)
Device: Res_0201; Add into BOM: no; SymbolName: 电阻; ModelId: 0e006ba4c37b4b73b0e85d5d1c6800cb; ModelName: R0201_L0.6-W0.3-H0.3; ModelTransform: 23.622,11.811,0,0,0,0,0,-0.0005,0; Value: 2.2K; Convert to PCB: no; Supplier Footprint: 0201; FootprintName: R0201
footprint R0201
pins: 1, 2

## Res_0201_1
designator R?, comment 200
Device: Res_0201; ConvertToPcb: yes; SymbolName: 电阻; ModelId: 0e006ba4c37b4b73b0e85d5d1c6800cb; ModelName: R0201_L0.6-W0.3-H0.3; ModelTransform: 23.622,11.811,0,0,0,0,0,-0.0005,0; Value: 200; AddInBom: yes; Supplier Footprint: 0201; FootprintName: R0201
footprint R0201
pins: 1, 2

## Res_0201_2
designator R?, comment 120Ω
Symbol: 电阻; Device: Res_0201; 3D Model: 0e006ba4c37b4b73b0e85d5d1c6800cb; 3D Model Transform: 23.622,11.811,0,0,0,0,0,-0.0005,0; ConvertToPcb: yes; ModelName: R0201_L0.6-W0.3-H0.3; Supplier Footprint: 0201; Value: 120Ω; AddInBom: yes; FootprintName: R0201
footprint R0201
3D model R0201_L0.6-W0.3-H0.3
pins: 1, 2

## Res_0201_3
designator R?, comment 1.62K
Device: Res_0201; ConvertToPcb: yes; SymbolName: 电阻; ModelId: 0e006ba4c37b4b73b0e85d5d1c6800cb; ModelName: R0201_L0.6-W0.3-H0.3; ModelTransform: 23.622,11.811,0,0,0,0,0,-0.0005,0; Value: 1.62K; AddInBom: yes; Supplier Footprint: 0201; FootprintName: R0201
footprint R0201
pins: 1, 2

## Res_0201_4
designator R?, comment 2.2R
Symbol: 电阻; Device: Res_0201; 3D Model: 0e006ba4c37b4b73b0e85d5d1c6800cb; 3D Model Transform: 23.622,11.811,0,0,0,0,0,-0.0005,0; ConvertToPcb: yes; ModelName: R0201_L0.6-W0.3-H0.3; Supplier Footprint: 0201; Value: 2.2R; AddInBom: yes; FootprintName: R0201
footprint R0201
3D model R0201_L0.6-W0.3-H0.3
pins: 1, 2

## Res_0402
designator R?, comment 100Ω
Symbol: 电阻; Device: Res_0402; ConvertToPcb: yes; ModelId: 671aefced39d4c318694bba8bd8efd39; ModelName: R0402_L1.0-W0.5-H0.5; ModelTransform: 39.37,19.685,0,0,0,0,0,0.0005,0; Value: 100Ω; AddInBom: yes; Supplier Footprint: 0402; FootprintName: R0402
footprint R0402
pins: 1, 2

## Res_0402_1
designator R?, comment 10K
Symbol: 电阻; Device: Res_0402; 3D Model: 671aefced39d4c318694bba8bd8efd39; 3D Model Transform: 39.37,19.685,0,0,0,0,0,0.0005,0; ConvertToPcb: yes; ModelName: R0402_L1.0-W0.5-H0.5; Supplier Footprint: 0402; Value: 10K; AddInBom: yes; FootprintName: R0402
footprint R0402
3D model R0402_L1.0-W0.5-H0.5
pins: 1, 2

## Res_0402_2
designator R?, comment 51kΩ
Symbol: 电阻; Device: Res_0402; ConvertToPcb: yes; ModelId: 671aefced39d4c318694bba8bd8efd39; ModelName: R0402_L1.0-W0.5-H0.5; ModelTransform: 39.37,19.685,0,0,0,0,0,0.0005,0; Value: 51kΩ; AddInBom: yes; Supplier Footprint: 0402; FootprintName: R0402
footprint R0402
pins: 1, 2

## Res_0402_3
designator R?, comment 22
Symbol: 电阻; Device: Res_0402; ConvertToPcb: yes; ModelId: 671aefced39d4c318694bba8bd8efd39; ModelName: R0402_L1.0-W0.5-H0.5; ModelTransform: 39.37,19.685,0,0,0,0,0,0.0005,0; Value: 22; AddInBom: yes; Supplier Footprint: 0402; FootprintName: R0402
footprint R0402
pins: 1, 2

## Res_0402_4
designator R?, comment 0
Symbol: 电阻; Device: Res_0402; 3D Model: 671aefced39d4c318694bba8bd8efd39; 3D Model Transform: 39.37,19.685,0,0,0,0,0,0.0005,0; ConvertToPcb: yes; ModelName: R0402_L1.0-W0.5-H0.5; Supplier Footprint: 0402; Value: 0; AddInBom: yes; FootprintName: R0402
footprint R0402
3D model R0402_L1.0-W0.5-H0.5
pins: 1, 2

## Res_0402_5
designator R?, comment 1M
Symbol: 电阻; Device: Res_0402; ConvertToPcb: yes; ModelId: 671aefced39d4c318694bba8bd8efd39; ModelName: R0402_L1.0-W0.5-H0.5; ModelTransform: 39.37,19.685,0,0,0,0,0,0.0005,0; Value: 1M; AddInBom: yes; Supplier Footprint: 0402; FootprintName: R0402
footprint R0402
pins: 1, 2

## Res_0402_6
designator R?, comment 2K
Symbol: 电阻; Device: Res_0402; ConvertToPcb: yes; ModelId: 671aefced39d4c318694bba8bd8efd39; ModelName: R0402_L1.0-W0.5-H0.5; ModelTransform: 39.37,19.685,0,0,0,0,0,0.0005,0; Value: 2K; AddInBom: yes; Supplier Footprint: 0402; FootprintName: R0402
footprint R0402
pins: 1, 2

## Res_0402_7
designator R?, comment 2.2K
Symbol: 电阻; Device: Res_0402; ConvertToPcb: yes; ModelId: 671aefced39d4c318694bba8bd8efd39; ModelName: R0402_L1.0-W0.5-H0.5; ModelTransform: 39.37,19.685,0,0,0,0,0,0.0005,0; Value: 2.2K; AddInBom: yes; Supplier Footprint: 0402; FootprintName: R0402
footprint R0402
pins: 1, 2

## Res_0402_8
designator R?, comment 100
Symbol: 电阻; Device: Res_0402; ConvertToPcb: yes; ModelId: 671aefced39d4c318694bba8bd8efd39; ModelName: R0402_L1.0-W0.5-H0.5; ModelTransform: 39.37,19.685,0,0,0,0,0,0.0005,0; Value: 100; AddInBom: yes; Supplier Footprint: 0402; FootprintName: R0402
footprint R0402
pins: 1, 2

## Res_0402_9
designator R?, comment 4.7K  (no BOM)
Symbol: 电阻; Device: Res_0402; 3D Model: 671aefced39d4c318694bba8bd8efd39; 3D Model Transform: 39.37,19.685,0,0,0,0,0,0.0005,0; Add into BOM: no; ConvertToPcb: yes; ModelName: R0402_L1.0-W0.5-H0.5; Supplier Footprint: 0402; Value: 4.7K; FootprintName: R0402
footprint R0402
3D model R0402_L1.0-W0.5-H0.5
pins: 1, 2

## Res_0402_10
designator R?, comment 2.2
Symbol: 电阻; Device: Res_0402; ConvertToPcb: yes; ModelId: 671aefced39d4c318694bba8bd8efd39; ModelName: R0402_L1.0-W0.5-H0.5; ModelTransform: 39.37,19.685,0,0,0,0,0,0.0005,0; Value: 2.2; AddInBom: yes; Supplier Footprint: 0402; FootprintName: R0402
footprint R0402
pins: 1, 2

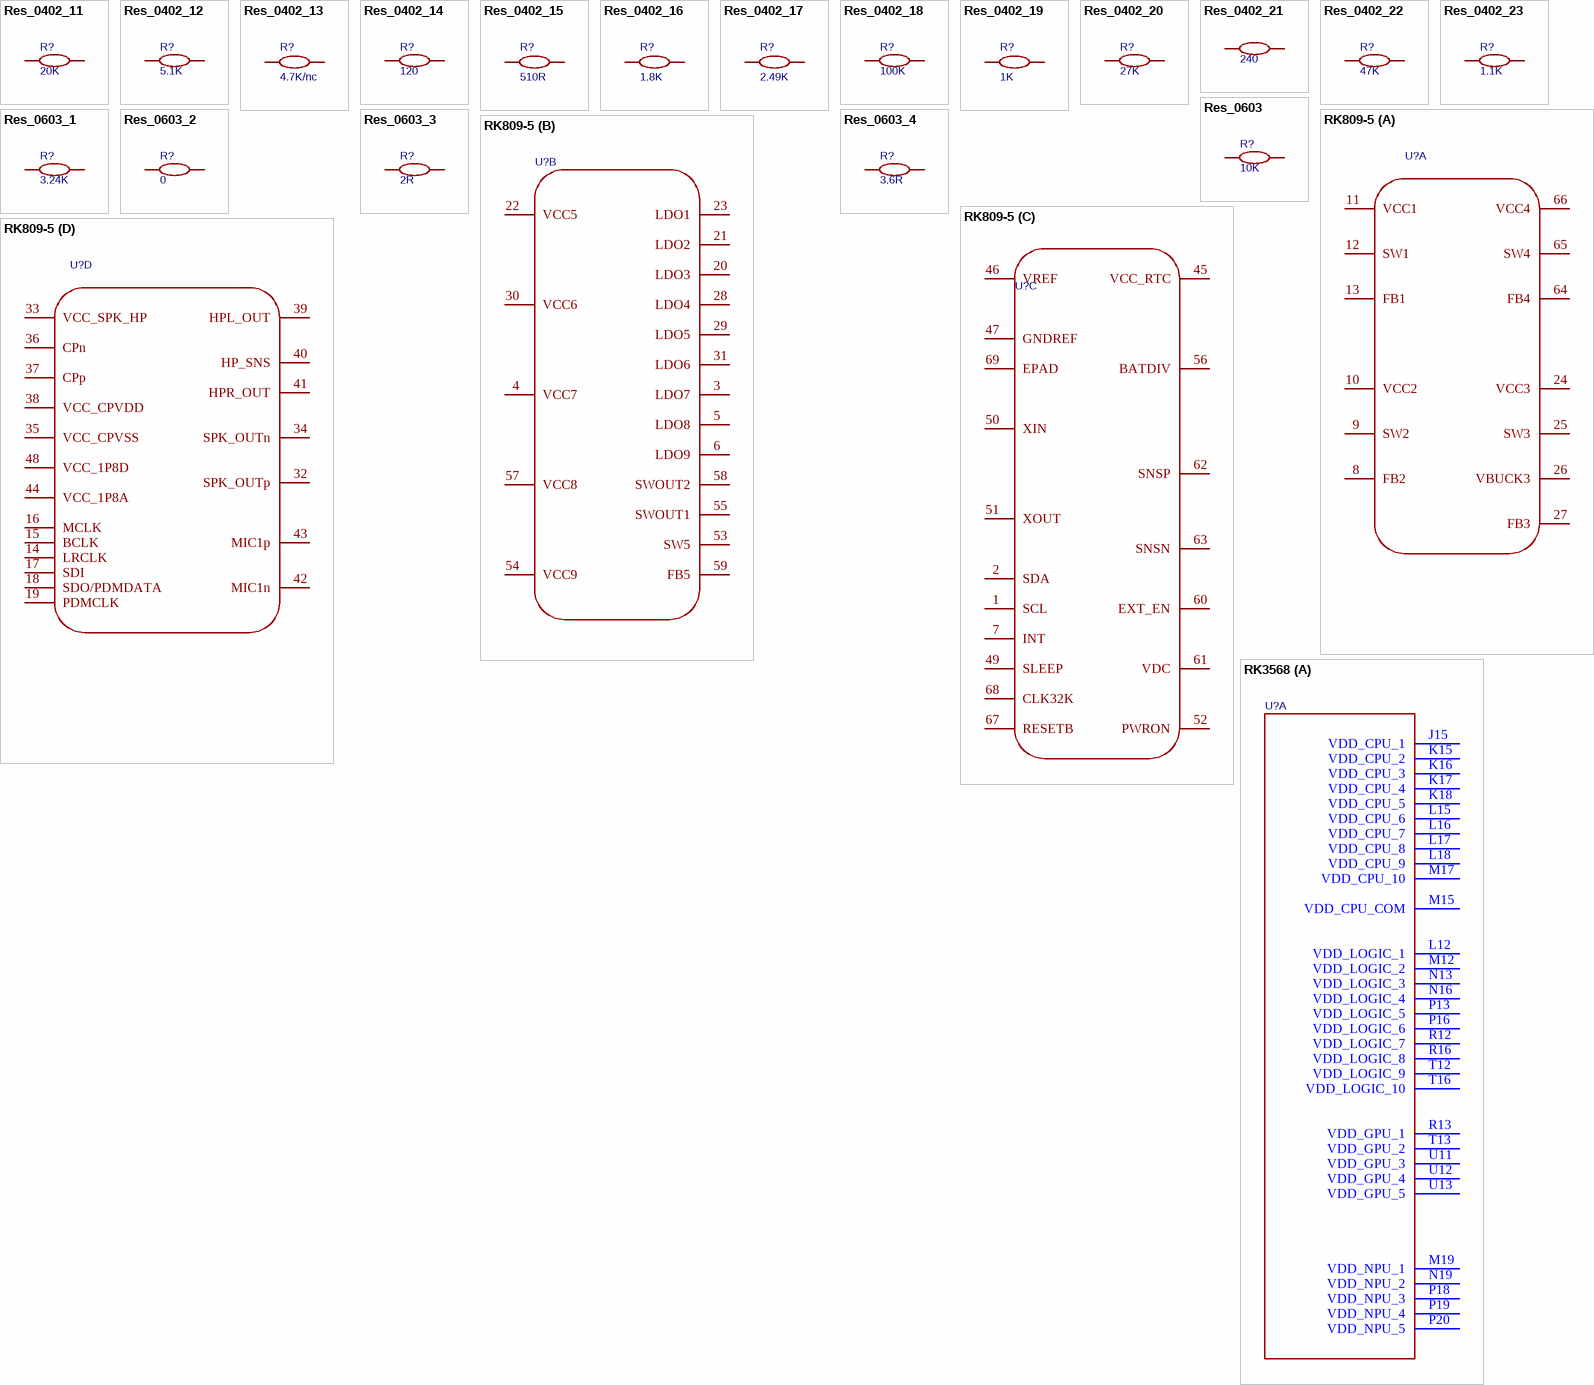
[diagram p3: symbols Res_0402_11 to RK3568]

## Res_0402_11
designator R?, comment 20K
Symbol: 电阻; Device: Res_0402; ConvertToPcb: yes; ModelId: 671aefced39d4c318694bba8bd8efd39; ModelName: R0402_L1.0-W0.5-H0.5; ModelTransform: 39.37,19.685,0,0,0,0,0,0.0005,0; Value: 20K; AddInBom: yes; Supplier Footprint: 0402; FootprintName: R0402
footprint R0402
pins: 1, 2

## Res_0402_12
designator R?, comment 5.1K
Symbol: 电阻; Device: Res_0402; ConvertToPcb: yes; ModelId: 671aefced39d4c318694bba8bd8efd39; ModelName: R0402_L1.0-W0.5-H0.5; ModelTransform: 39.37,19.685,0,0,0,0,0,0.0005,0; Value: 5.1K; AddInBom: yes; Supplier Footprint: 0402; FootprintName: R0402
footprint R0402
pins: 1, 2

## Res_0402_13
designator R?, comment 4.7K/nc
Symbol: 电阻; Device: Res_0402; Add into BOM: no; ConvertToPcb: yes; ModelId: 671aefced39d4c318694bba8bd8efd39; ModelName: R0402_L1.0-W0.5-H0.5; ModelTransform: 39.37,19.685,0,0,0,0,0,0.0005,0; Value: 4.7K/nc; Supplier Footprint: 0402; FootprintName: R0402
footprint R0402
pins: 1, 2

## Res_0402_14
designator R?, comment 120
Symbol: 电阻; Device: Res_0402; ConvertToPcb: yes; ModelId: 671aefced39d4c318694bba8bd8efd39; ModelName: R0402_L1.0-W0.5-H0.5; ModelTransform: 39.37,19.685,0,0,0,0,0,0.0005,0; Value: 120; AddInBom: yes; Supplier Footprint: 0402; FootprintName: R0402
footprint R0402
pins: 1, 2

## Res_0402_15
designator R?, comment 510R
Symbol: 电阻; Device: Res_0402; ConvertToPcb: yes; ModelId: 671aefced39d4c318694bba8bd8efd39; ModelName: R0402_L1.0-W0.5-H0.5; ModelTransform: 39.37,19.685,0,0,0,0,0,0.0005,0; Value: 510R; AddInBom: yes; Supplier Footprint: 0402; FootprintName: R0402
footprint R0402
pins: 1, 2

## Res_0402_16
designator R?, comment 1.8K
Symbol: 电阻; Device: Res_0402; ConvertToPcb: yes; ModelId: 671aefced39d4c318694bba8bd8efd39; ModelName: R0402_L1.0-W0.5-H0.5; ModelTransform: 39.37,19.685,0,0,0,0,0,0.0005,0; Value: 1.8K; AddInBom: yes; Supplier Footprint: 0402; FootprintName: R0402
footprint R0402
pins: 1, 2

## Res_0402_17
designator R?, comment 2.49K
Symbol: 电阻; Device: Res_0402; ConvertToPcb: yes; ModelId: 671aefced39d4c318694bba8bd8efd39; ModelName: R0402_L1.0-W0.5-H0.5; ModelTransform: 39.37,19.685,0,0,0,0,0,0.0005,0; Value: 2.49K; AddInBom: yes; Supplier Footprint: 0402; FootprintName: R0402
footprint R0402
pins: 1, 2

## Res_0402_18
designator R?, comment 100K
Symbol: 电阻; 3D Model: 671aefced39d4c318694bba8bd8efd39; 3D Model Transform: 39.37,19.685,0,0,0,0,0,0.0005,0; Device: Res_0402; ConvertToPcb: yes; ModelName: R0402_L1.0-W0.5-H0.5; Value: 100K; AddInBom: yes; Supplier Footprint: 0402; FootprintName: R0402
footprint R0402
3D model R0402_L1.0-W0.5-H0.5
pins: 1, 2

## Res_0402_19
designator R?, comment 1K
Symbol: 电阻; 3D Model: 671aefced39d4c318694bba8bd8efd39; 3D Model Transform: 39.37,19.685,0,0,0,0,0,0.0005,0; Device: Res_0402; ConvertToPcb: yes; ModelName: R0402_L1.0-W0.5-H0.5; Value: 1K; AddInBom: yes; Supplier Footprint: 0402; FootprintName: R0402
footprint R0402
3D model R0402_L1.0-W0.5-H0.5
pins: 1, 2

## Res_0402_20
designator R?, comment 27K
Symbol: 电阻; 3D Model: 671aefced39d4c318694bba8bd8efd39; 3D Model Transform: 39.37,19.685,0,0,0,0,0,0.0005,0; Device: Res_0402; ConvertToPcb: yes; ModelName: R0402_L1.0-W0.5-H0.5; Value: 27K; AddInBom: yes; Supplier Footprint: 0402; FootprintName: R0402
footprint R0402
3D model R0402_L1.0-W0.5-H0.5
pins: 1, 2

## Res_0402_21
designator R?, comment value 240  (hidden comment: Res_0402)
Symbol: 电阻; Check: false; ConvertToPcb: yes; ModelId: 671aefced39d4c318694bba8bd8efd39; ModelName: R0402_L1.0-W0.5-H0.5; ModelTransform: 39.37,19.685,0,0,0,0,0,0.0005,0; Device: Res_0402; AddInBom: yes; Supplier Footprint: 0402; FootprintName: r0402-nsk
footprint r0402-nsk
pins: 1, 2

## Res_0402_22
designator R?, comment 47K
Symbol: 电阻; Device: Res_0402; ConvertToPcb: yes; ModelId: 671aefced39d4c318694bba8bd8efd39; ModelName: R0402_L1.0-W0.5-H0.5; ModelTransform: 39.37,19.685,0,0,0,0,0,0.0005,0; Value: 47K; AddInBom: yes; Supplier Footprint: 0402; FootprintName: R0402
footprint R0402
pins: 1, 2

## Res_0402_23
designator R?, comment 1.1K
Symbol: 电阻; Device: Res_0402; 3D Model: 671aefced39d4c318694bba8bd8efd39; 3D Model Transform: 39.37,19.685,0,0,0,0,0,0.0005,0; ConvertToPcb: yes; ModelName: R0402_L1.0-W0.5-H0.5; Supplier Footprint: 0402; Value: 1.1K; AddInBom: yes; FootprintName: R0402
footprint R0402
3D model R0402_L1.0-W0.5-H0.5
pins: 1, 2

## Res_0603
designator R?, comment 10K
Symbol: 电阻; Device: Res_0603; ConvertToPcb: yes; ModelId: fc143cca1e79419f9cd78b61e9279f08; ModelName: R0603; ModelTransform: 31.8897,63.7794,0,90,0,0,0,0,0; AddInBom: yes; Supplier Footprint: 0603; FootprintName: R0603; Value: 10K
footprint R0603
pins: 1, 2

## Res_0603_1
designator R?, comment 3.24K
Symbol: 电阻; Device: Res_0603; ConvertToPcb: yes; ModelId: fc143cca1e79419f9cd78b61e9279f08; ModelName: R0603; ModelTransform: 31.8897,63.7794,0,90,0,0,0,0,0; Value: 3.24K; AddInBom: yes; Supplier Footprint: 0603; FootprintName: R0603
footprint R0603
pins: 1, 2

## Res_0603_2
designator R?, comment 0
Symbol: 电阻; Device: Res_0603; ConvertToPcb: yes; ModelId: fc143cca1e79419f9cd78b61e9279f08聨0819f05c4eef4c71ace90d822a990e87; ModelName: R0603; ModelTransform: 31.8897,63.7794,0,90,0,0,0,0,0; Value: 0; AddInBom: yes; Supplier Footprint: 0603; FootprintName: R0603
footprint R0603
pins: 1, 2

## Res_0603_3
designator R?, comment 2R
Symbol: 电阻; Device: Res_0603; ConvertToPcb: yes; ModelId: fc143cca1e79419f9cd78b61e9279f08; ModelName: R0603; ModelTransform: 31.8897,63.7794,0,90,0,0,0,0,0; Value: 2R; AddInBom: yes; Supplier Footprint: 0603; FootprintName: R0603
footprint R0603
pins: 1, 2

## Res_0603_4
designator R?, comment 3.6R
Symbol: 电阻; Device: Res_0603; ConvertToPcb: yes; ModelId: fc143cca1e79419f9cd78b61e9279f08; ModelName: R0603; ModelTransform: 31.8897,63.7794,0,90,0,0,0,0,0; Value: 3.6R; AddInBom: yes; Supplier Footprint: 0603; FootprintName: R0603
footprint R0603
pins: 1, 2

## RK809-5
designator U?
Device: RK809-5; AddInBom: yes; ModelId: e930c577e1fa4bd28a96171513c1b833聨0819f05c4eef4c71ace90d822a990e87; ModelName: QFN-68_L7.0-W7.0-H0.8-P0.35-BL-EP5.5; ModelTransform: 275.59,275.59,29.527499999999996,0,0,0,-3.93701,-11.81102,0; ConvertToPcb: yes; SymbolName: RK809-5; FootprintName: RK809-5
footprint RK809-5
part A pins: 8 FB2, 9 SW2, 10 VCC2, 11 VCC1, 12 SW1, 13 FB1, 24 VCC3, 25 SW3, 26 VBUCK3, 27 FB3, 64 FB4, 65 SW4, 66 VCC4
part B pins: 3 LDO7, 4 VCC7, 5 LDO8, 6 LDO9, 20 LDO3, 21 LDO2, 22 VCC5, 23 LDO1, 28 LDO4, 29 LDO5, 30 VCC6, 31 LDO6, 53 SW5, 54 VCC9, 55 SWOUT1, 57 VCC8, 58 SWOUT2, 59 FB5
part C pins: 1 SCL, 2 SDA, 7 INT, 45 VCC_RTC, 46 VREF, 47 GNDREF, 49 SLEEP, 50 XIN, 51 XOUT, 52 PWRON, 56 BATDIV, 60 EXT_EN, 61 VDC, 62 SNSP, 63 SNSN, 67 RESETB, 68 CLK32K, 69 EPAD
part D pins: 14 LRCLK, 15 BCLK, 16 MCLK, 17 SDI, 18 SDO/PDMDATA, 19 PDMCLK, 32 SPK_OUTp, 33 VCC_SPK_HP, 34 SPK_OUTn, 35 VCC_CPVSS, 36 CPn, 37 CPp, 38 VCC_CPVDD, 39 HPL_OUT, 40 HP_SNS, 41 HPR_OUT, 42 MIC1n, 43 MIC1p, 44 VCC_1P8A, 48 VCC_1P8D

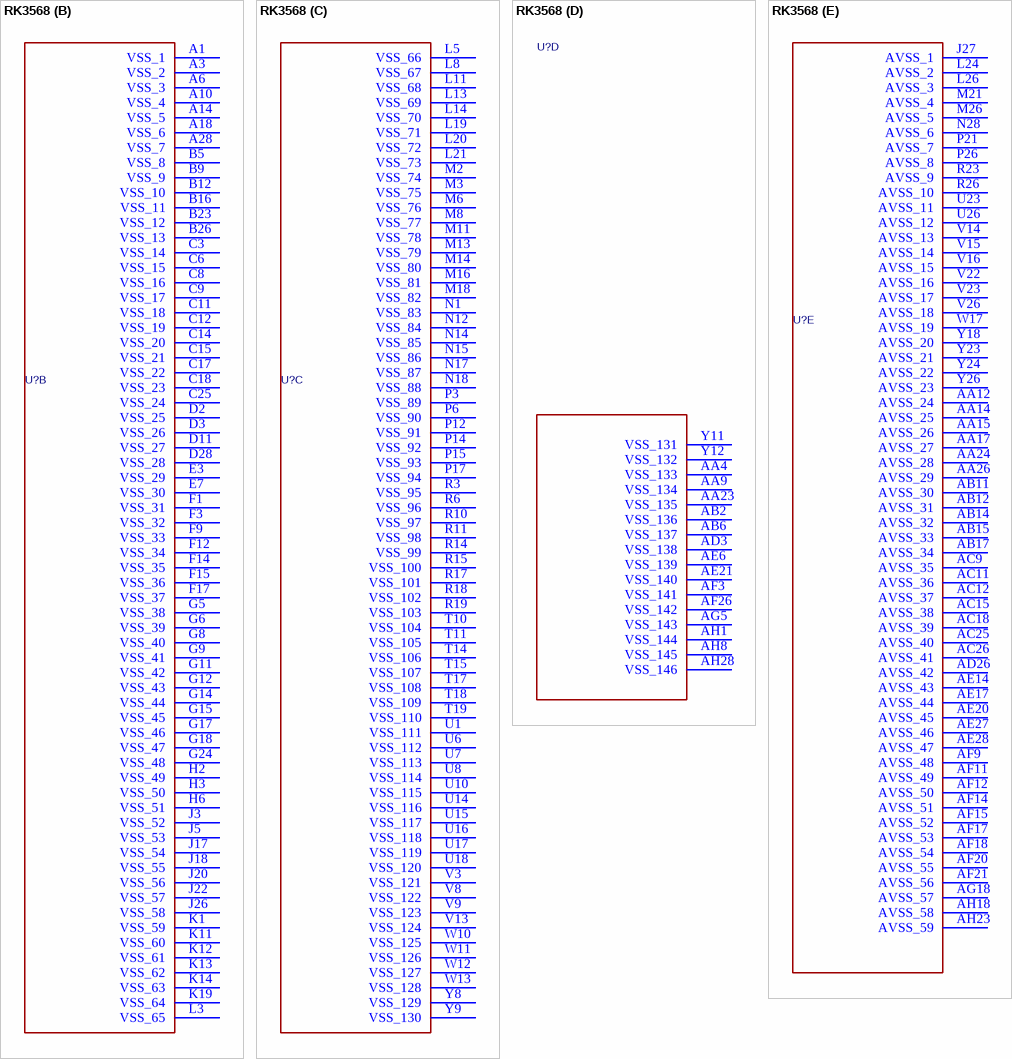
[diagram p4: symbol RK3568]

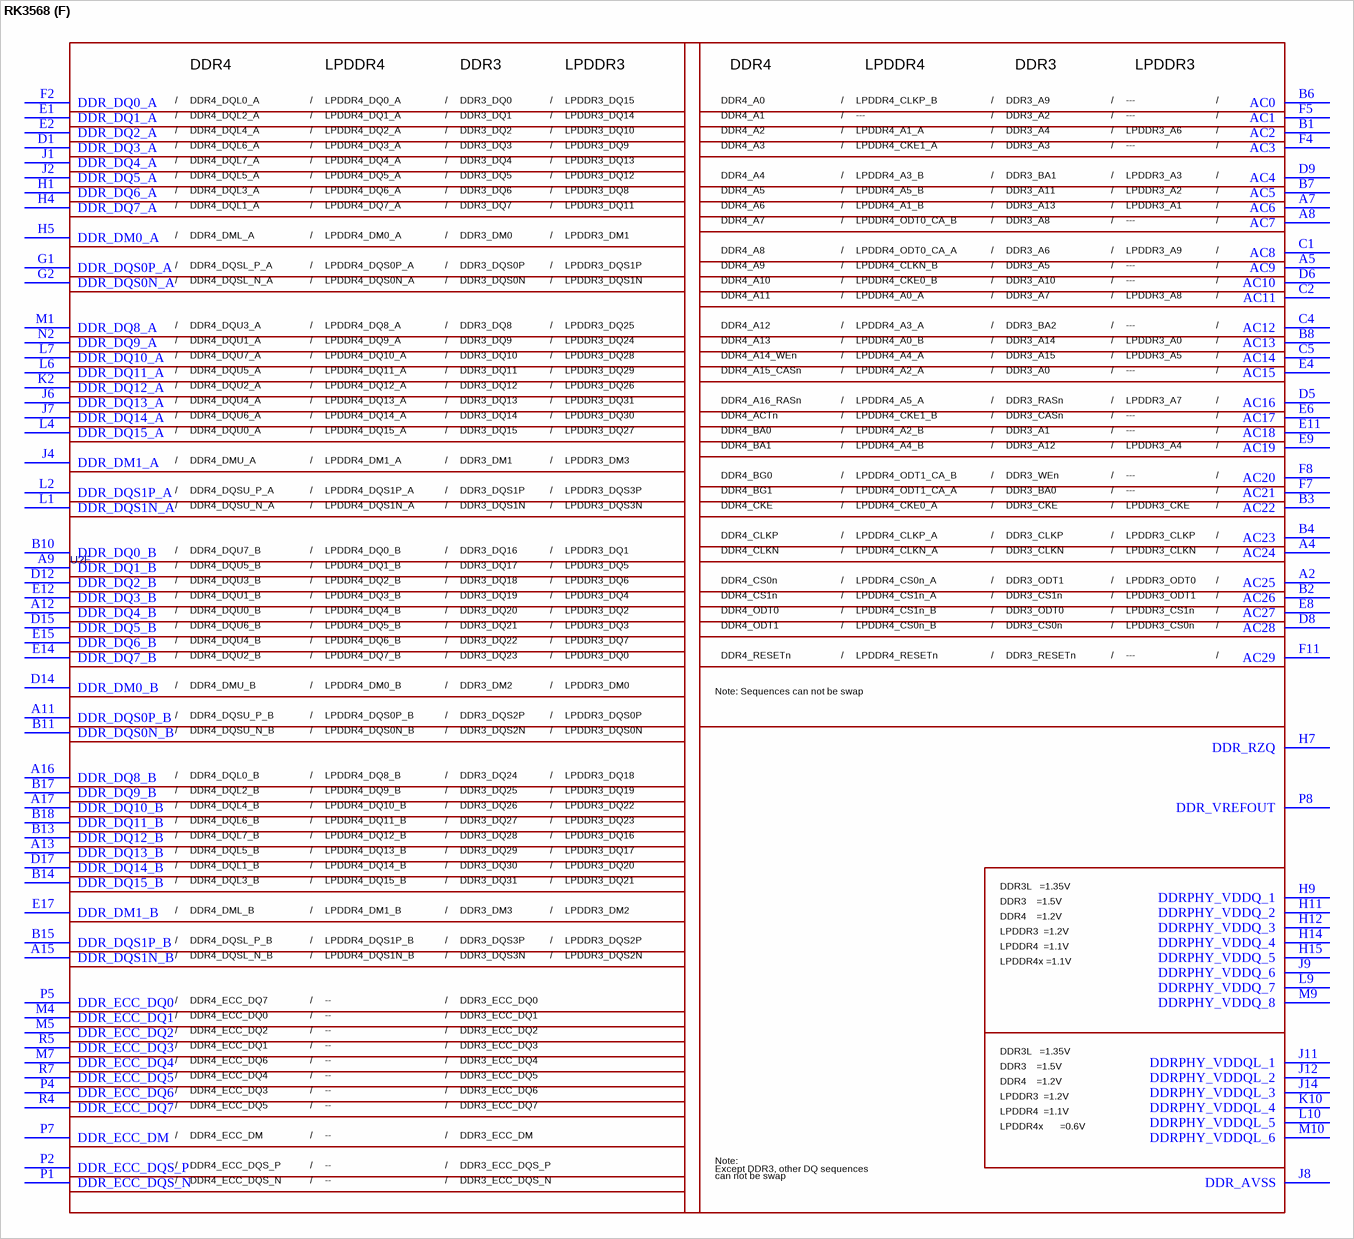
[diagram p5: symbol RK3568]

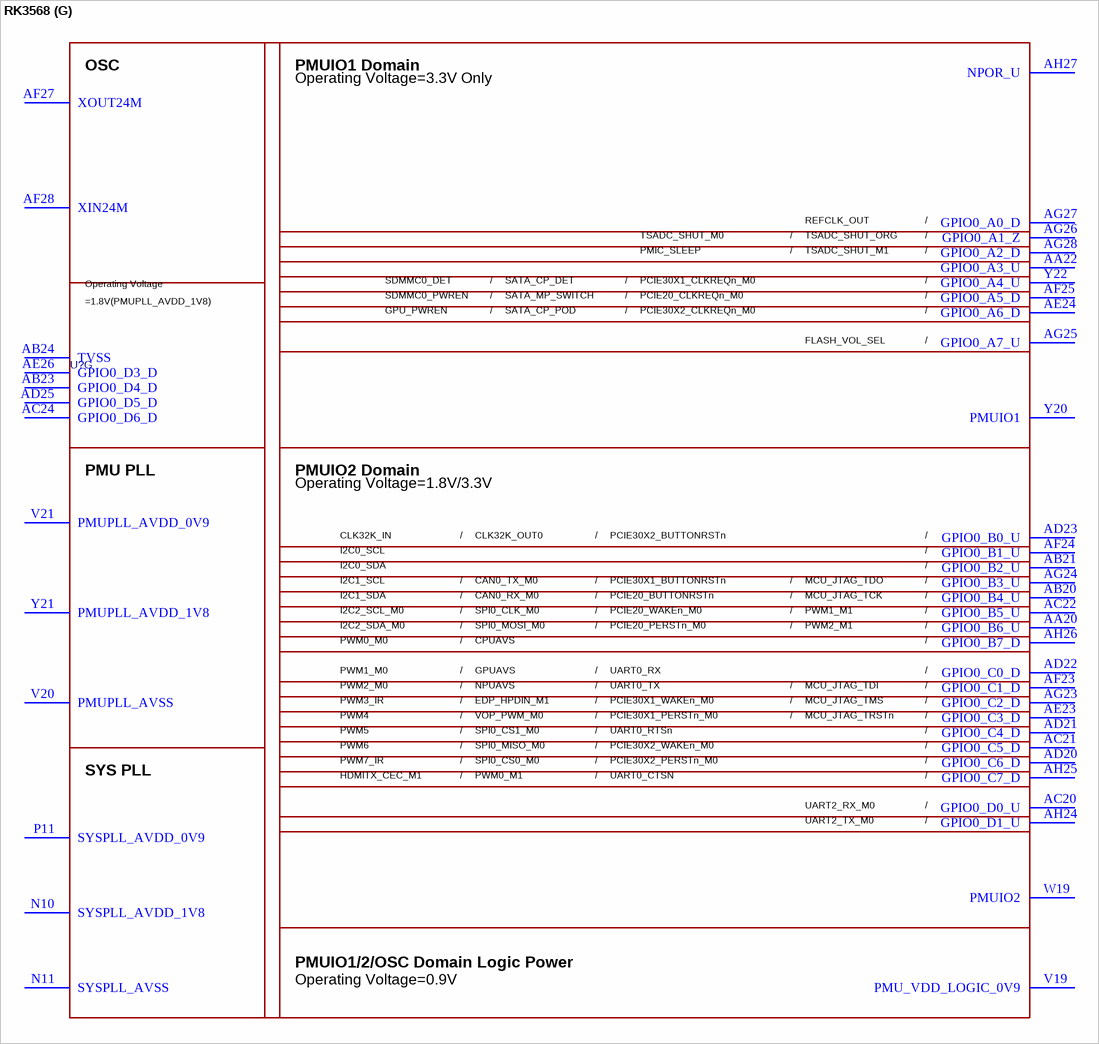
[diagram p6: symbol RK3568]

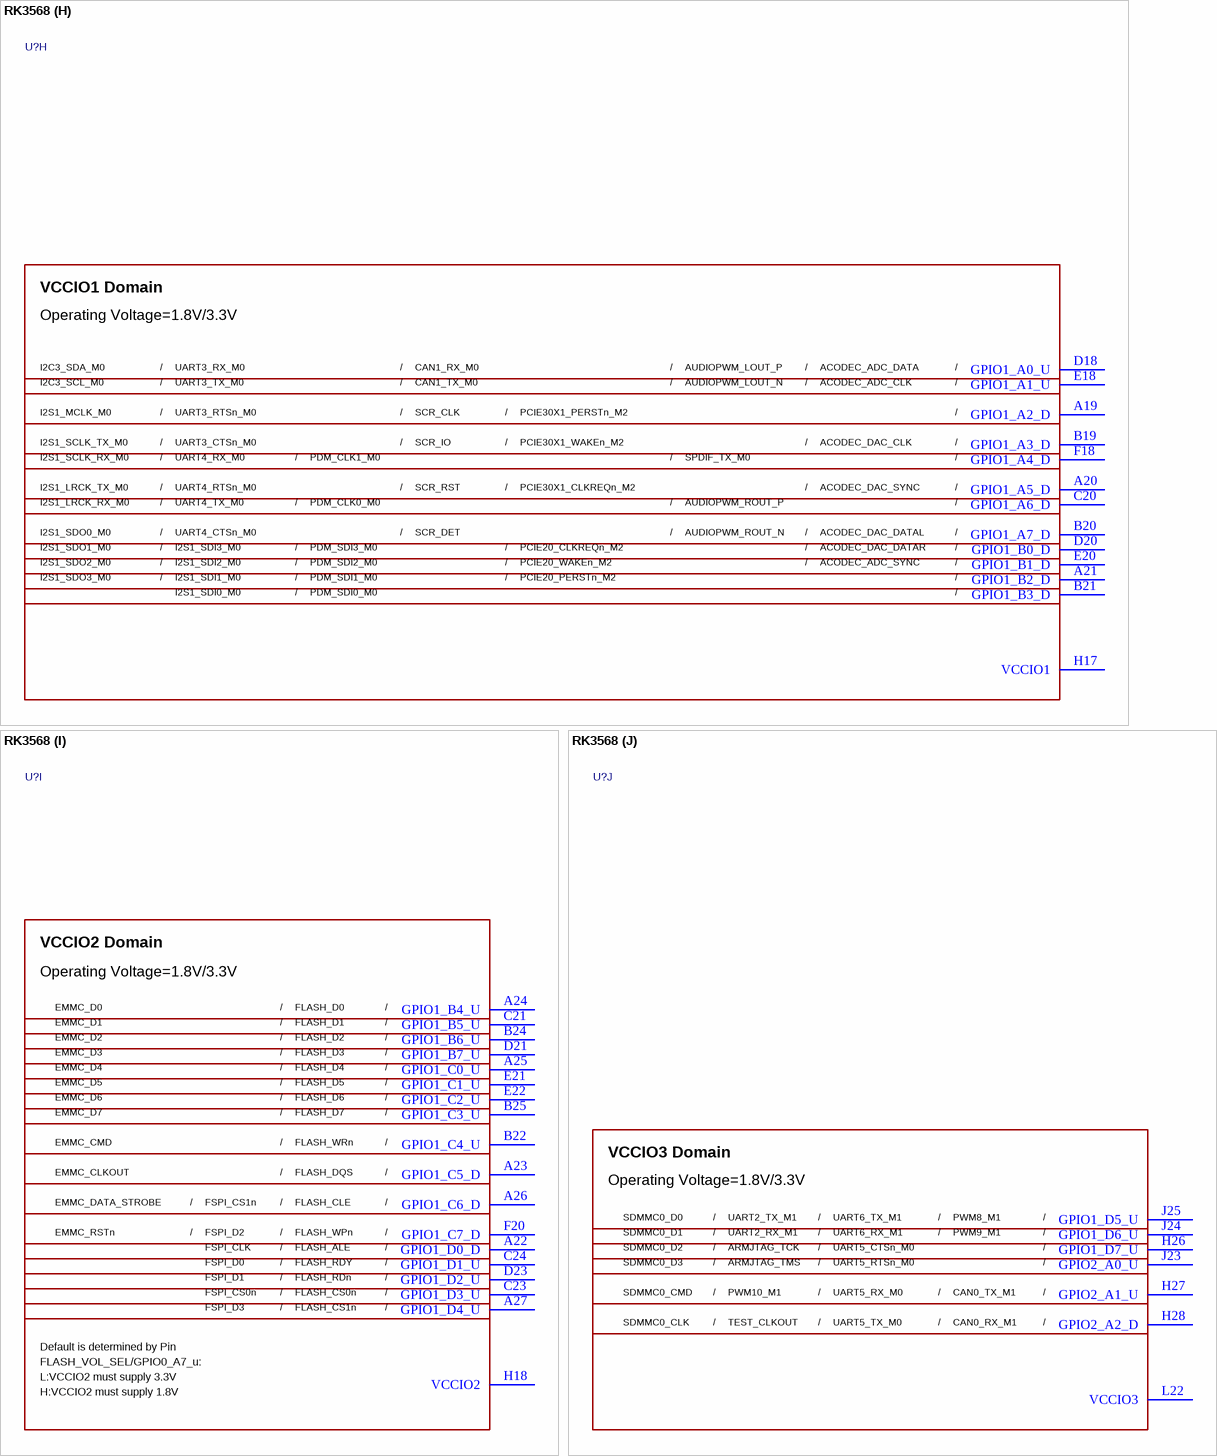
[diagram p7: symbol RK3568]

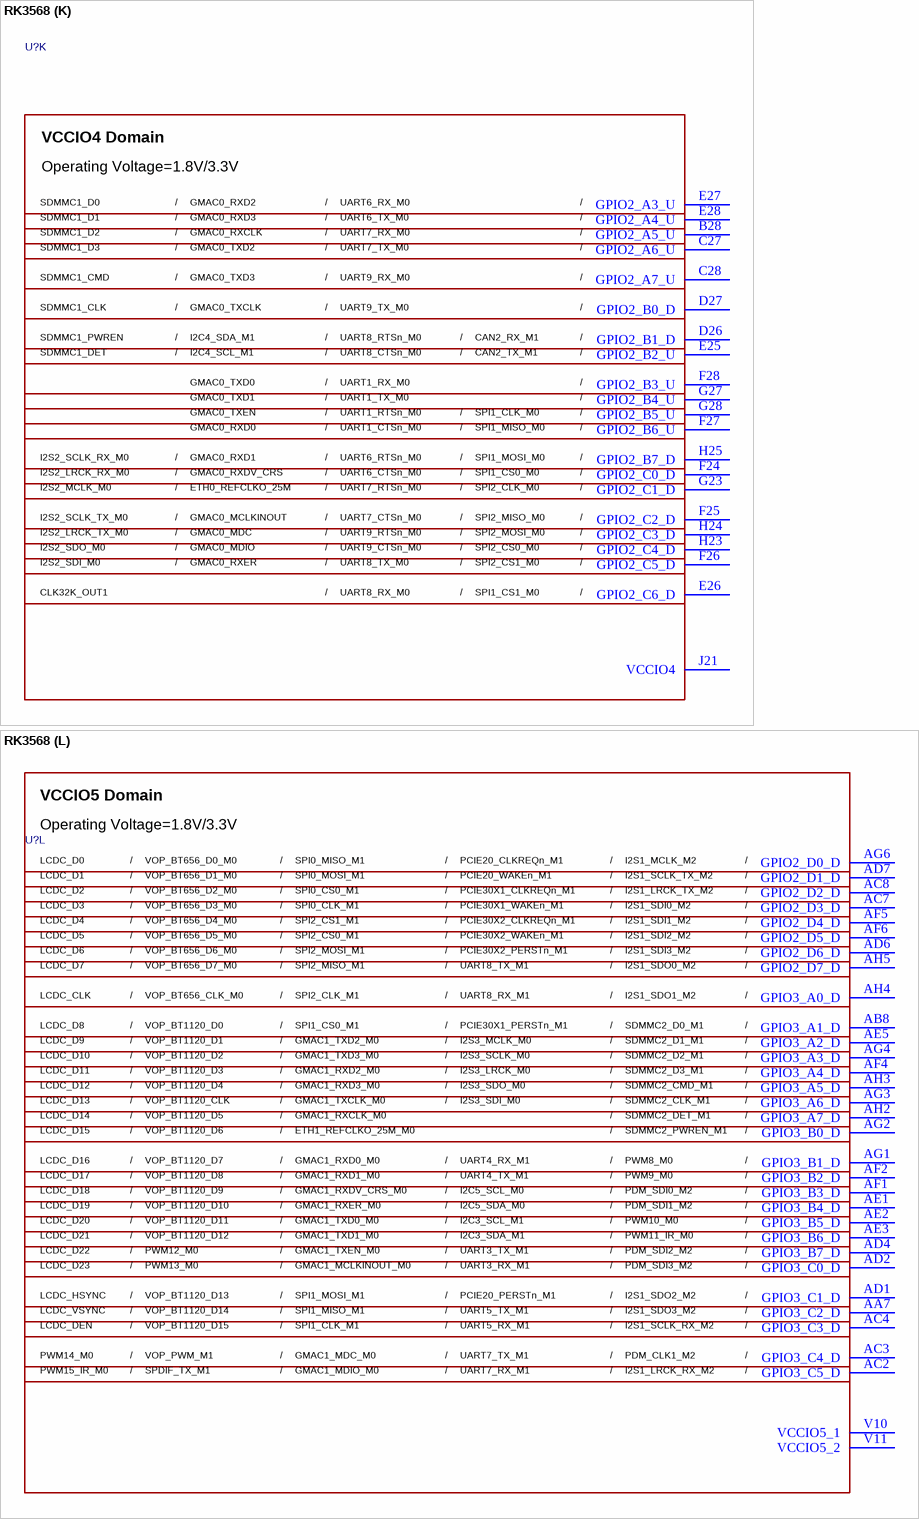
[diagram p8: symbol RK3568]

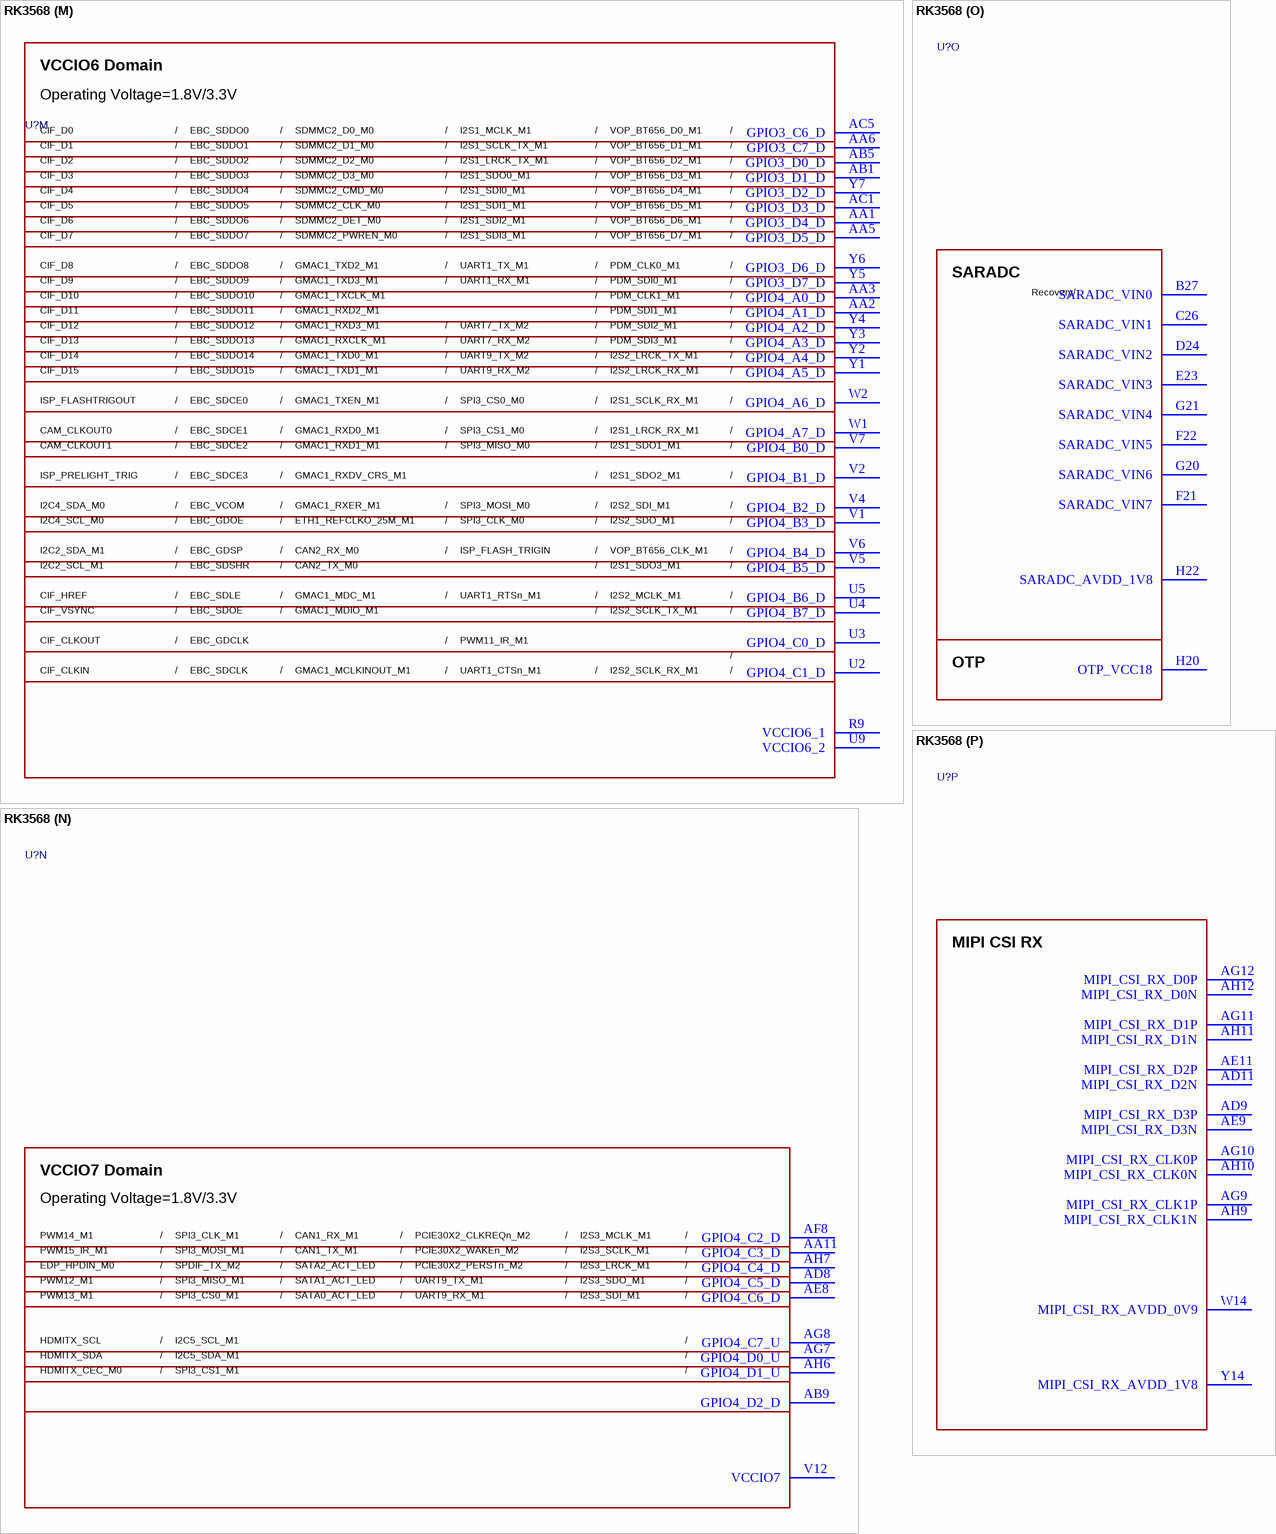
[diagram p9: symbol RK3568]

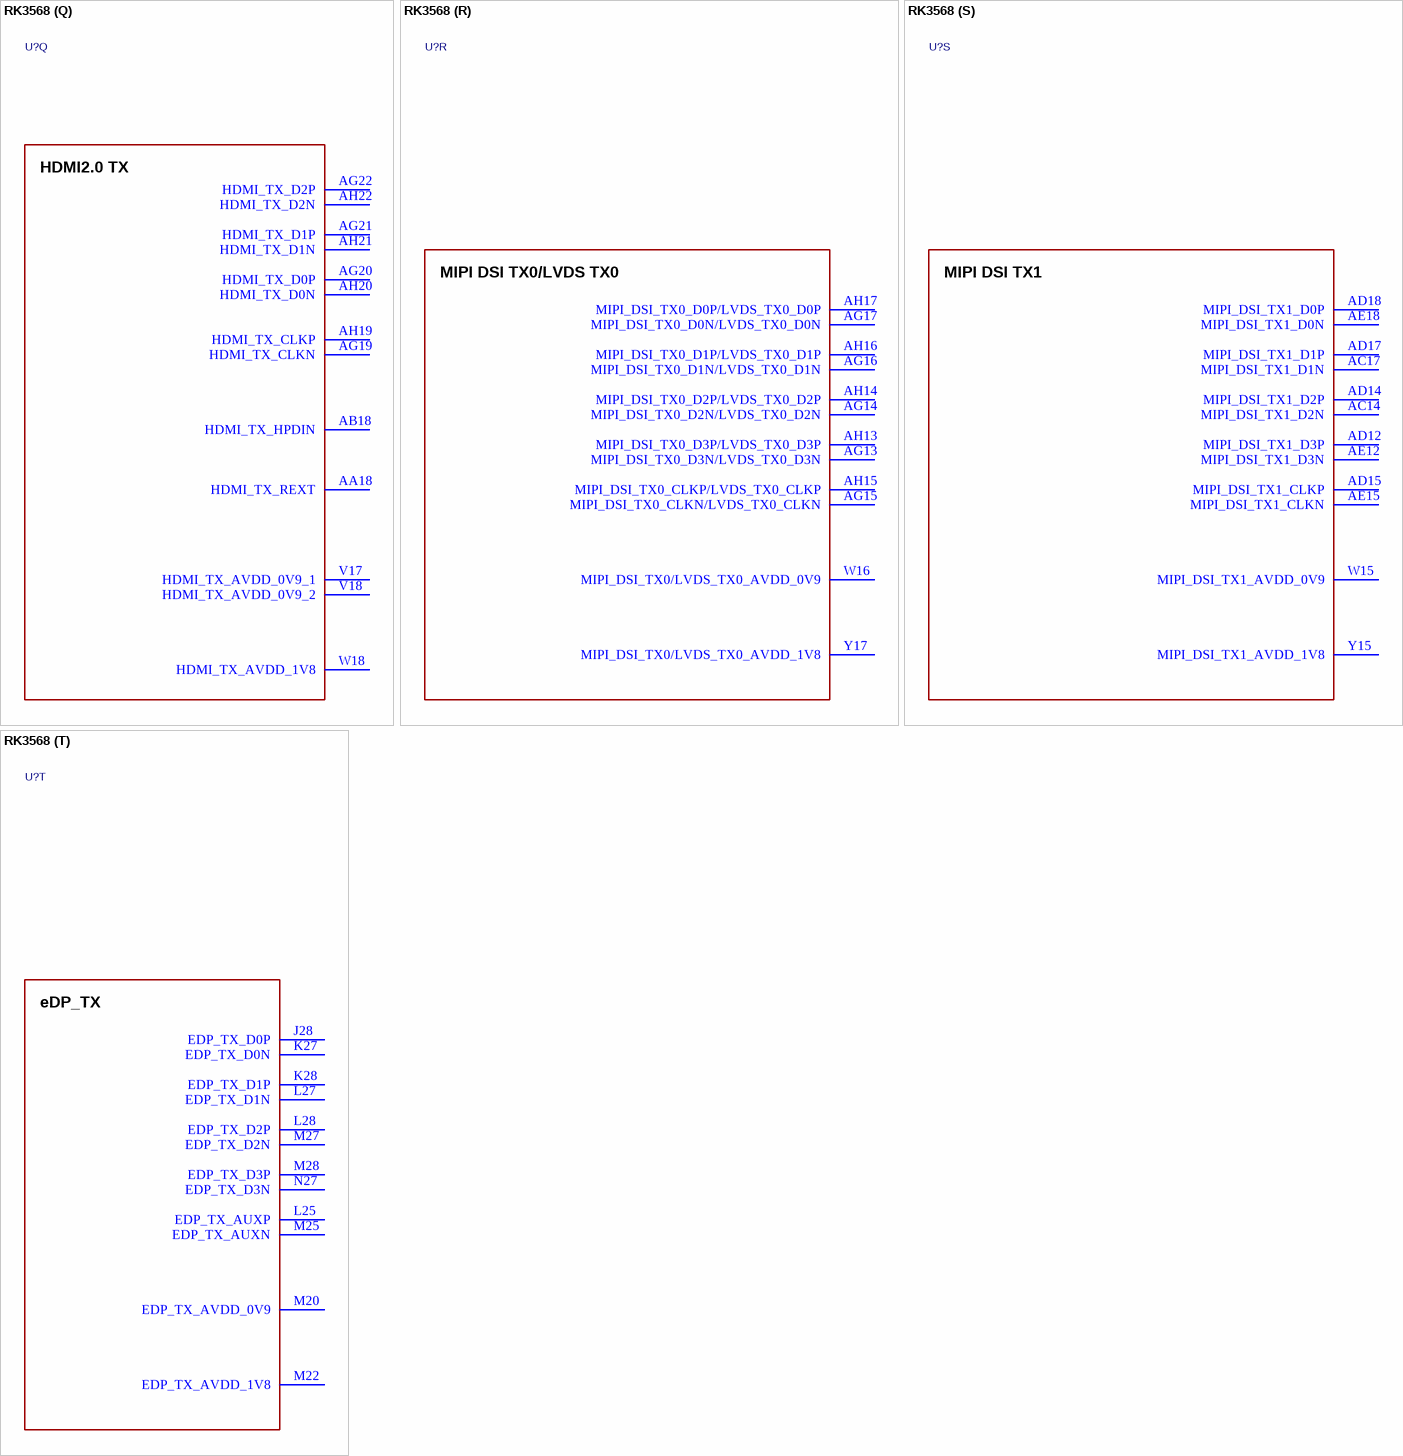
[diagram p10: symbol RK3568]

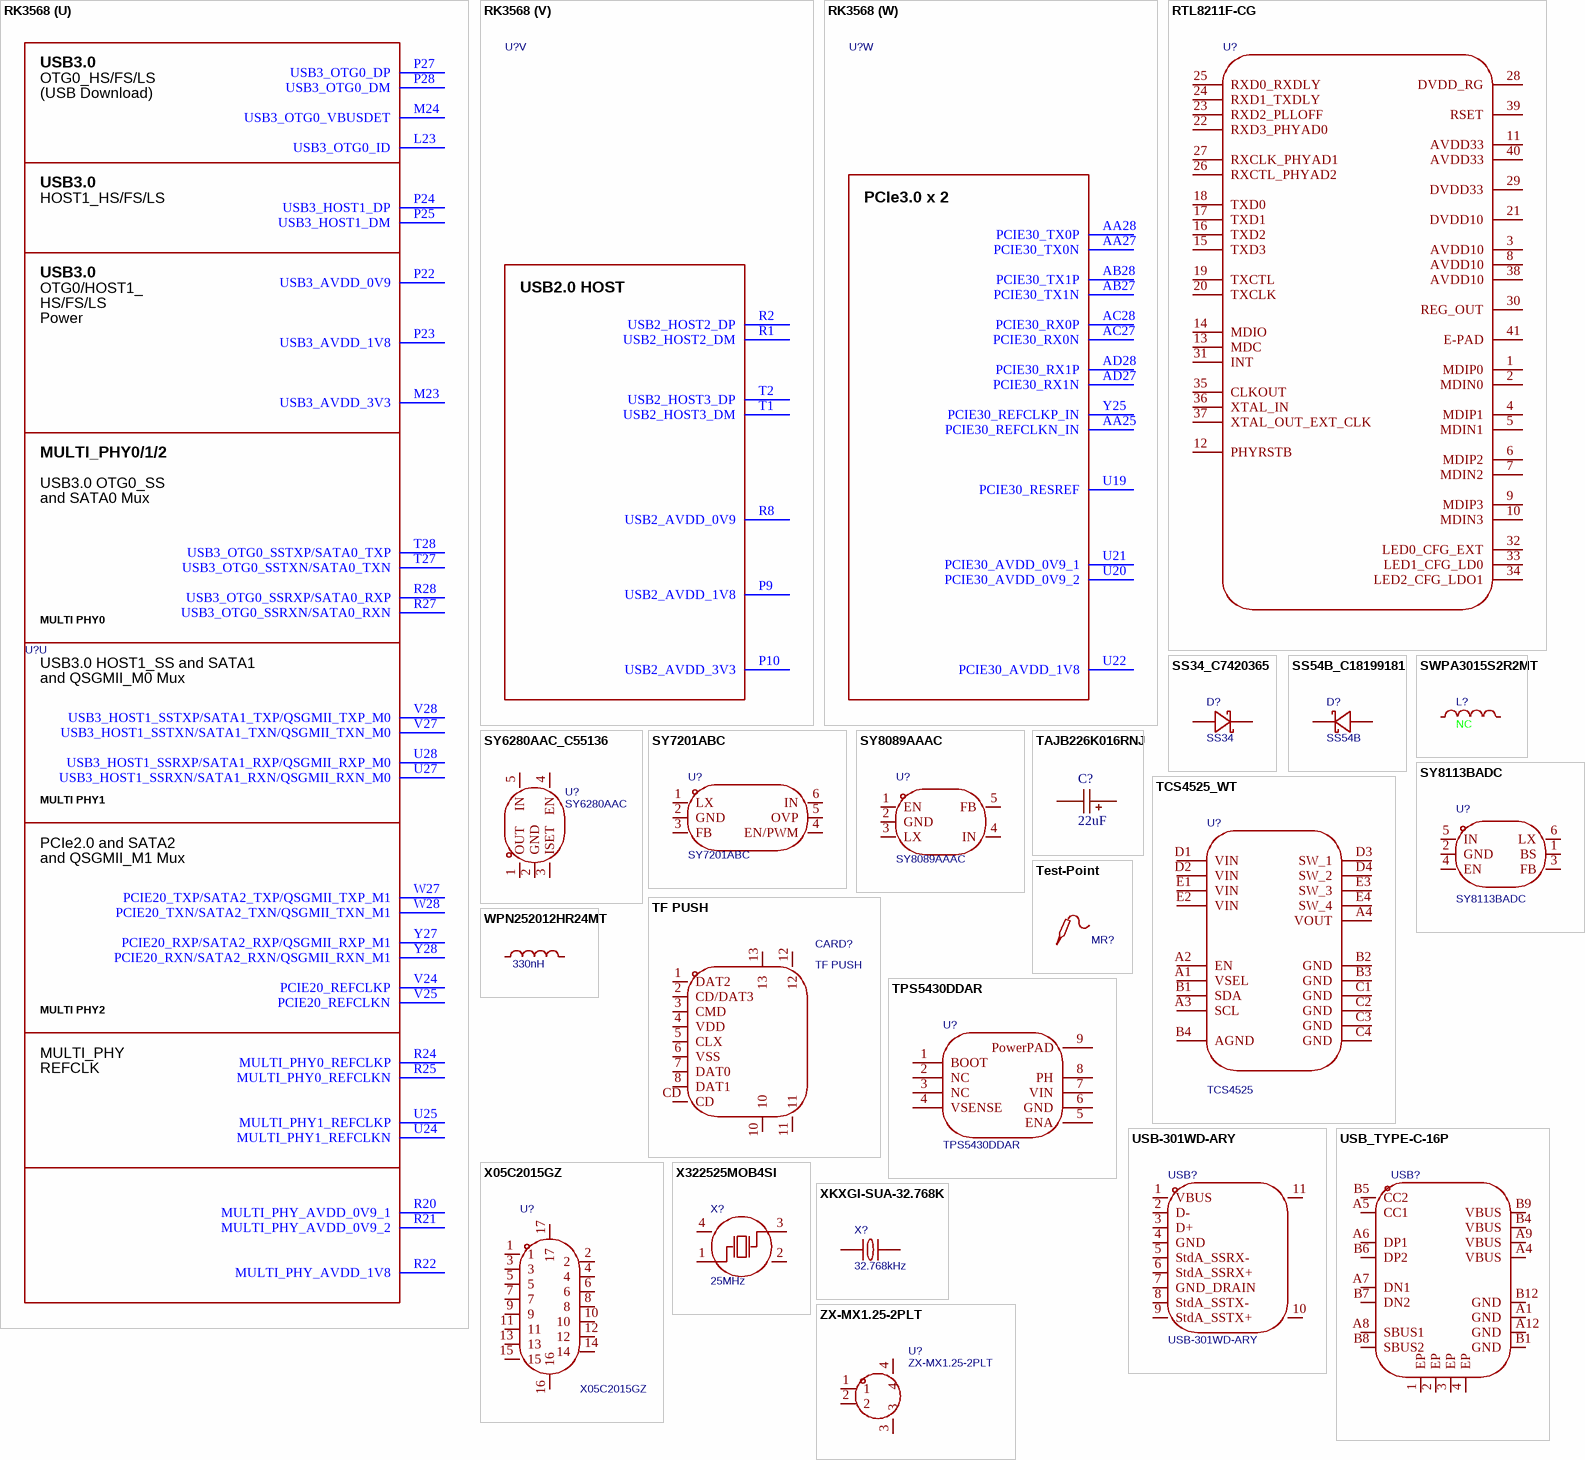
[diagram p11: symbols RK3568 to ZX-MX1.25-2PLT]

## RK3568
designator U?  (value not drawn)
ConvertToPcb: yes; ModelId: e6756cba1b9f43448429fdcd1d44d9d9; ModelName: BGA-636_L19.0-W19.0-P0.65-BL; ModelTransform: 748.03,748.03,54.33,0,0,0,0,0,0; Symbol: RK3568; Device: RK3568; AddInBom: yes; FootprintName: BGA-636_L19.0-W19.0-P0.65-BL
footprint BGA-636_L19.0-W19.0-P0.65-BL
part A pins: J15 VDD_CPU_1, K15 VDD_CPU_2, K16 VDD_CPU_3, K17 VDD_CPU_4, K18 VDD_CPU_5, L12 VDD_LOGIC_1, L15 VDD_CPU_6, L16 VDD_CPU_7, L17 VDD_CPU_8, L18 VDD_CPU_9, M12 VDD_LOGIC_2, M15 VDD_CPU_COM, M17 VDD_CPU_10, M19 VDD_NPU_1, N13 VDD_LOGIC_3, N16 VDD_LOGIC_4, N19 VDD_NPU_2, P13 VDD_LOGIC_5, P16 VDD_LOGIC_6, P18 VDD_NPU_3, P19 VDD_NPU_4, P20 VDD_NPU_5, R12 VDD_LOGIC_7, R13 VDD_GPU_1, R16 VDD_LOGIC_8, T12 VDD_LOGIC_9, T13 VDD_GPU_2, T16 VDD_LOGIC_10, U11 VDD_GPU_3, U12 VDD_GPU_4, U13 VDD_GPU_5
part B pins: A1 VSS_1, A3 VSS_2, A6 VSS_3, A10 VSS_4, A14 VSS_5, A18 VSS_6, A28 VSS_7, B5 VSS_8, B9 VSS_9, B12 VSS_10, B16 VSS_11, B23 VSS_12, B26 VSS_13, C3 VSS_14, C6 VSS_15, C8 VSS_16, C9 VSS_17, C11 VSS_18, C12 VSS_19, C14 VSS_20, C15 VSS_21, C17 VSS_22, C18 VSS_23, C25 VSS_24, D2 VSS_25, D3 VSS_26, D11 VSS_27, D28 VSS_28, E3 VSS_29, E7 VSS_30, F1 VSS_31, F3 VSS_32, F9 VSS_33, F12 VSS_34, F14 VSS_35, F15 VSS_36, F17 VSS_37, G5 VSS_38, G6 VSS_39, G8 VSS_40, G9 VSS_41, G11 VSS_42, G12 VSS_43, G14 VSS_44, G15 VSS_45, G17 VSS_46, G18 VSS_47, G24 VSS_48, H2 VSS_49, H3 VSS_50, H6 VSS_51, J3 VSS_52, J5 VSS_53, J17 VSS_54, J18 VSS_55, J20 VSS_56, J22 VSS_57, J26 VSS_58, K1 VSS_59, K11 VSS_60, K12 VSS_61, K13 VSS_62, K14 VSS_63, K19 VSS_64, L3 VSS_65
part C pins: L5 VSS_66, L8 VSS_67, L11 VSS_68, L13 VSS_69, L14 VSS_70, L19 VSS_71, L20 VSS_72, L21 VSS_73, M2 VSS_74, M3 VSS_75, M6 VSS_76, M8 VSS_77, M11 VSS_78, M13 VSS_79, M14 VSS_80, M16 VSS_81, M18 VSS_82, N1 VSS_83, N12 VSS_84, N14 VSS_85, N15 VSS_86, N17 VSS_87, N18 VSS_88, P3 VSS_89, P6 VSS_90, P12 VSS_91, P14 VSS_92, P15 VSS_93, P17 VSS_94, R3 VSS_95, R6 VSS_96, R10 VSS_97, R11 VSS_98, R14 VSS_99, R15 VSS_100, R17 VSS_101, R18 VSS_102, R19 VSS_103, T10 VSS_104, T11 VSS_105, T14 VSS_106, T15 VSS_107, T17 VSS_108, T18 VSS_109, T19 VSS_110, U1 VSS_111, U6 VSS_112, U7 VSS_113, U8 VSS_114, U10 VSS_115, U14 VSS_116, U15 VSS_117, U16 VSS_118, U17 VSS_119, U18 VSS_120, V3 VSS_121, V8 VSS_122, V9 VSS_123, V13 VSS_124, W10 VSS_125, W11 VSS_126, W12 VSS_127, W13 VSS_128, Y8 VSS_129, Y9 VSS_130
part D pins: AA4 VSS_133, AA9 VSS_134, AA23 VSS_135, AB2 VSS_136, AB6 VSS_137, AD3 VSS_138, AE6 VSS_139, AE21 VSS_140, AF3 VSS_141, AF26 VSS_142, AG5 VSS_143, AH1 VSS_144, AH8 VSS_145, AH28 VSS_146, Y11 VSS_131, Y12 VSS_132
part E pins: AA12 AVSS_24, AA14 AVSS_25, AA15 AVSS_26, AA17 AVSS_27, AA24 AVSS_28, AA26 AVSS_29, AB11 AVSS_30, AB12 AVSS_31, AB14 AVSS_32, AB15 AVSS_33, AB17 AVSS_34, AC9 AVSS_35, AC11 AVSS_36, AC12 AVSS_37, AC15 AVSS_38, AC18 AVSS_39, AC25 AVSS_40, AC26 AVSS_41, AD26 AVSS_42, AE14 AVSS_43, AE17 AVSS_44, AE20 AVSS_45, AE27 AVSS_46, AE28 AVSS_47, AF9 AVSS_48, AF11 AVSS_49, AF12 AVSS_50, AF14 AVSS_51, AF15 AVSS_52, AF17 AVSS_53, AF18 AVSS_54, AF20 AVSS_55, AF21 AVSS_56, AG18 AVSS_57, AH18 AVSS_58, AH23 AVSS_59, J27 AVSS_1, L24 AVSS_2, L26 AVSS_3, M21 AVSS_4, M26 AVSS_5, N28 AVSS_6, P21 AVSS_7, P26 AVSS_8, R23 AVSS_9, R26 AVSS_10, U23 AVSS_11, U26 AVSS_12, V14 AVSS_13, V15 AVSS_14, V16 AVSS_15, V22 AVSS_16, V23 AVSS_17, V26 AVSS_18, W17 AVSS_19, Y18 AVSS_20, Y23 AVSS_21, Y24 AVSS_22, Y26 AVSS_23
part F pins: A2 AC25, A4 AC24, A5 AC9, A7 AC6, A8 AC7, A9 DDR_DQ1_B, A11 DDR_DQS0P_B, A12 DDR_DQ4_B, A13 DDR_DQ13_B, A15 DDR_DQS1N_B, A16 DDR_DQ8_B, A17 DDR_DQ10_B, B1 AC2, B2 AC26, B3 AC22, B4 AC23, B6 AC0, B7 AC5, B8 AC13, B10 DDR_DQ0_B, B11 DDR_DQS0N_B, B13 DDR_DQ12_B, B14 DDR_DQ15_B, B15 DDR_DQS1P_B, B17 DDR_DQ9_B, B18 DDR_DQ11_B, C1 AC8, C2 AC11, C4 AC12, C5 AC14, D1 DDR_DQ3_A, D5 AC16, D6 AC10, D8 AC28, D9 AC4, D12 DDR_DQ2_B, D14 DDR_DM0_B, D15 DDR_DQ5_B, D17 DDR_DQ14_B, E1 DDR_DQ1_A, E2 DDR_DQ2_A, E4 AC15, E6 AC17, E8 AC27, E9 AC19, E11 AC18, E12 DDR_DQ3_B, E14 DDR_DQ7_B, E15 DDR_DQ6_B, E17 DDR_DM1_B, F2 DDR_DQ0_A, F4 AC3, F5 AC1, F7 AC21, F8 AC20, F11 AC29, G1 DDR_DQS0P_A, G2 DDR_DQS0N_A, H1 DDR_DQ6_A, H4 DDR_DQ7_A, H5 DDR_DM0_A, H7 DDR_RZQ, H9 DDRPHY_VDDQ_1, H11 DDRPHY_VDDQ_2, H12 DDRPHY_VDDQ_3, H14 DDRPHY_VDDQ_4, H15 DDRPHY_VDDQ_5, J1 DDR_DQ4_A, J2 DDR_DQ5_A, J4 DDR_DM1_A, J6 DDR_DQ13_A, J7 DDR_DQ14_A, J8 DDR_AVSS, J9 DDRPHY_VDDQ_6, J11 DDRPHY_VDDQL_1, J12 DDRPHY_VDDQL_2, J14 DDRPHY_VDDQL_3, K2 DDR_DQ12_A, K10 DDRPHY_VDDQL_4, L1 DDR_DQS1N_A, L2 DDR_DQS1P_A, L4 DDR_DQ15_A, L6 DDR_DQ11_A, L7 DDR_DQ10_A, L9 DDRPHY_VDDQ_7, L10 DDRPHY_VDDQL_5, M1 DDR_DQ8_A, M4 DDR_ECC_DQ1, M5 DDR_ECC_DQ2, M7 DDR_ECC_DQ4, M9 DDRPHY_VDDQ_8, M10 DDRPHY_VDDQL_6, N2 DDR_DQ9_A, P1 DDR_ECC_DQS_N, P2 DDR_ECC_DQS_P, P4 DDR_ECC_DQ6, P5 DDR_ECC_DQ0, P7 DDR_ECC_DM, P8 DDR_VREFOUT, R4 DDR_ECC_DQ7, R5 DDR_ECC_DQ3, R7 DDR_ECC_DQ5
part G pins: AA20 GPIO0_B6_U, AA22 GPIO0_A3_U, AB20 GPIO0_B4_U, AB21 GPIO0_B2_U, AB23 GPIO0_D4_D, AB24 TVSS, AC20 GPIO0_D0_U, AC21 GPIO0_C5_D, AC22 GPIO0_B5_U, AC24 GPIO0_D6_D, AD20 GPIO0_C6_D, AD21 GPIO0_C4_D, AD22 GPIO0_C0_D, AD23 GPIO0_B0_U, AD25 GPIO0_D5_D, AE23 GPIO0_C3_D, AE24 GPIO0_A6_D, AE26 GPIO0_D3_D, AF23 GPIO0_C1_D, AF24 GPIO0_B1_U, AF25 GPIO0_A5_D, AF27 XOUT24M, AF28 XIN24M, AG23 GPIO0_C2_D, AG24 GPIO0_B3_U, AG25 GPIO0_A7_U, AG26 GPIO0_A1_Z, AG27 GPIO0_A0_D, AG28 GPIO0_A2_D, AH24 GPIO0_D1_U, AH25 GPIO0_C7_D, AH26 GPIO0_B7_D, AH27 NPOR_U, N10 SYSPLL_AVDD_1V8, N11 SYSPLL_AVSS, P11 SYSPLL_AVDD_0V9, V19 PMU_VDD_LOGIC_0V9, V20 PMUPLL_AVSS, V21 PMUPLL_AVDD_0V9, W19 PMUIO2, Y20 PMUIO1, Y21 PMUPLL_AVDD_1V8, Y22 GPIO0_A4_U
part H pins: A19 GPIO1_A2_D, A20 GPIO1_A5_D, A21 GPIO1_B2_D, B19 GPIO1_A3_D, B20 GPIO1_A7_D, B21 GPIO1_B3_D, C20 GPIO1_A6_D, D18 GPIO1_A0_U, D20 GPIO1_B0_D, E18 GPIO1_A1_U, E20 GPIO1_B1_D, F18 GPIO1_A4_D, H17 VCCIO1
part I pins: A22 GPIO1_D0_D, A23 GPIO1_C5_D, A24 GPIO1_B4_U, A25 GPIO1_C0_U, A26 GPIO1_C6_D, A27 GPIO1_D4_U, B22 GPIO1_C4_U, B24 GPIO1_B6_U, B25 GPIO1_C3_U, C21 GPIO1_B5_U, C23 GPIO1_D3_U, C24 GPIO1_D1_U, D21 GPIO1_B7_U, D23 GPIO1_D2_U, E21 GPIO1_C1_U, E22 GPIO1_C2_U, F20 GPIO1_C7_D, H18 VCCIO2
part J pins: H26 GPIO1_D7_U, H27 GPIO2_A1_U, H28 GPIO2_A2_D, J23 GPIO2_A0_U, J24 GPIO1_D6_U, J25 GPIO1_D5_U, L22 VCCIO3
part K pins: B28 GPIO2_A5_U, C27 GPIO2_A6_U, C28 GPIO2_A7_U, D26 GPIO2_B1_D, D27 GPIO2_B0_D, E25 GPIO2_B2_U, E26 GPIO2_C6_D, E27 GPIO2_A3_U, E28 GPIO2_A4_U, F24 GPIO2_C0_D, F25 GPIO2_C2_D, F26 GPIO2_C5_D, F27 GPIO2_B6_U, F28 GPIO2_B3_U, G23 GPIO2_C1_D, G27 GPIO2_B4_U, G28 GPIO2_B5_U, H23 GPIO2_C4_D, H24 GPIO2_C3_D, H25 GPIO2_B7_D, J21 VCCIO4
part L pins: AA7 GPIO3_C2_D, AB8 GPIO3_A1_D, AC2 GPIO3_C5_D, AC3 GPIO3_C4_D, AC4 GPIO3_C3_D, AC7 GPIO2_D3_D, AC8 GPIO2_D2_D, AD1 GPIO3_C1_D, AD2 GPIO3_C0_D, AD4 GPIO3_B7_D, AD6 GPIO2_D6_D, AD7 GPIO2_D1_D, AE1 GPIO3_B4_D, AE2 GPIO3_B5_D, AE3 GPIO3_B6_D, AE5 GPIO3_A2_D, AF1 GPIO3_B3_D, AF2 GPIO3_B2_D, AF4 GPIO3_A4_D, AF5 GPIO2_D4_D, AF6 GPIO2_D5_D, AG1 GPIO3_B1_D, AG2 GPIO3_B0_D, AG3 GPIO3_A6_D, AG4 GPIO3_A3_D, AG6 GPIO2_D0_D, AH2 GPIO3_A7_D, AH3 GPIO3_A5_D, AH4 GPIO3_A0_D, AH5 GPIO2_D7_D, V10 VCCIO5_1, V11 VCCIO5_2
part M pins: AA1 GPIO3_D4_D, AA2 GPIO4_A1_D, AA3 GPIO4_A0_D, AA5 GPIO3_D5_D, AA6 GPIO3_C7_D, AB1 GPIO3_D1_D, AB5 GPIO3_D0_D, AC1 GPIO3_D3_D, AC5 GPIO3_C6_D, R9 VCCIO6_1, U2 GPIO4_C1_D, U3 GPIO4_C0_D, U4 GPIO4_B7_D, U5 GPIO4_B6_D, U9 VCCIO6_2, V1 GPIO4_B3_D, V2 GPIO4_B1_D, V4 GPIO4_B2_D, V5 GPIO4_B5_D, V6 GPIO4_B4_D, V7 GPIO4_B0_D, W1 GPIO4_A7_D, W2 GPIO4_A6_D, Y1 GPIO4_A5_D, Y2 GPIO4_A4_D, Y3 GPIO4_A3_D, Y4 GPIO4_A2_D, Y5 GPIO3_D7_D, Y6 GPIO3_D6_D, Y7 GPIO3_D2_D
part N pins: AA11 GPIO4_C3_D, AB9 GPIO4_D2_D, AD8 GPIO4_C5_D, AE8 GPIO4_C6_D, AF8 GPIO4_C2_D, AG7 GPIO4_D0_U, AG8 GPIO4_C7_U, AH6 GPIO4_D1_U, AH7 GPIO4_C4_D, V12 VCCIO7
part O pins: B27 SARADC_VIN0, C26 SARADC_VIN1, D24 SARADC_VIN2, E23 SARADC_VIN3, F21 SARADC_VIN7, F22 SARADC_VIN5, G20 SARADC_VIN6, G21 SARADC_VIN4, H20 OTP_VCC18, H22 SARADC_AVDD_1V8
part P pins: AD9 MIPI_CSI_RX_D3P, AD11 MIPI_CSI_RX_D2N, AE9 MIPI_CSI_RX_D3N, AE11 MIPI_CSI_RX_D2P, AG9 MIPI_CSI_RX_CLK1P, AG10 MIPI_CSI_RX_CLK0P, AG11 MIPI_CSI_RX_D1P, AG12 MIPI_CSI_RX_D0P, AH9 MIPI_CSI_RX_CLK1N, AH10 MIPI_CSI_RX_CLK0N, AH11 MIPI_CSI_RX_D1N, AH12 MIPI_CSI_RX_D0N, W14 MIPI_CSI_RX_AVDD_0V9, Y14 MIPI_CSI_RX_AVDD_1V8
part Q pins: AA18 HDMI_TX_REXT, AB18 HDMI_TX_HPDIN, AG19 HDMI_TX_CLKN, AG20 HDMI_TX_D0P, AG21 HDMI_TX_D1P, AG22 HDMI_TX_D2P, AH19 HDMI_TX_CLKP, AH20 HDMI_TX_D0N, AH21 HDMI_TX_D1N, AH22 HDMI_TX_D2N, V17 HDMI_TX_AVDD_0V9_1, V18 HDMI_TX_AVDD_0V9_2, W18 HDMI_TX_AVDD_1V8
part R pins: AG13 MIPI_DSI_TX0_D3N/LVDS_TX0_D3N, AG14 MIPI_DSI_TX0_D2N/LVDS_TX0_D2N, AG15 MIPI_DSI_TX0_CLKN/LVDS_TX0_CLKN, AG16 MIPI_DSI_TX0_D1N/LVDS_TX0_D1N, AG17 MIPI_DSI_TX0_D0N/LVDS_TX0_D0N, AH13 MIPI_DSI_TX0_D3P/LVDS_TX0_D3P, AH14 MIPI_DSI_TX0_D2P/LVDS_TX0_D2P, AH15 MIPI_DSI_TX0_CLKP/LVDS_TX0_CLKP, AH16 MIPI_DSI_TX0_D1P/LVDS_TX0_D1P, AH17 MIPI_DSI_TX0_D0P/LVDS_TX0_D0P, W16 MIPI_DSI_TX0/LVDS_TX0_AVDD_0V9, Y17 MIPI_DSI_TX0/LVDS_TX0_AVDD_1V8
part S pins: AC14 MIPI_DSI_TX1_D2N, AC17 MIPI_DSI_TX1_D1N, AD12 MIPI_DSI_TX1_D3P, AD14 MIPI_DSI_TX1_D2P, AD15 MIPI_DSI_TX1_CLKP, AD17 MIPI_DSI_TX1_D1P, AD18 MIPI_DSI_TX1_D0P, AE12 MIPI_DSI_TX1_D3N, AE15 MIPI_DSI_TX1_CLKN, AE18 MIPI_DSI_TX1_D0N, W15 MIPI_DSI_TX1_AVDD_0V9, Y15 MIPI_DSI_TX1_AVDD_1V8
part T pins: J28 EDP_TX_D0P, K27 EDP_TX_D0N, K28 EDP_TX_D1P, L25 EDP_TX_AUXP, L27 EDP_TX_D1N, L28 EDP_TX_D2P, M20 EDP_TX_AVDD_0V9, M22 EDP_TX_AVDD_1V8, M25 EDP_TX_AUXN, M27 EDP_TX_D2N, M28 EDP_TX_D3P, N27 EDP_TX_D3N
part U pins: L23 USB3_OTG0_ID, M23 USB3_AVDD_3V3, M24 USB3_OTG0_VBUSDET, P22 USB3_AVDD_0V9, P23 USB3_AVDD_1V8, P24 USB3_HOST1_DP, P25 USB3_HOST1_DM, P27 USB3_OTG0_DP, P28 USB3_OTG0_DM, R20 MULTI_PHY_AVDD_0V9_1, R21 MULTI_PHY_AVDD_0V9_2, R22 MULTI_PHY_AVDD_1V8, R24 MULTI_PHY0_REFCLKP, R25 MULTI_PHY0_REFCLKN, R27 USB3_OTG0_SSRXN/SATA0_RXN, R28 USB3_OTG0_SSRXP/SATA0_RXP, T27 USB3_OTG0_SSTXN/SATA0_TXN, T28 USB3_OTG0_SSTXP/SATA0_TXP, U24 MULTI_PHY1_REFCLKN, U25 MULTI_PHY1_REFCLKP, U27 USB3_HOST1_SSRXN/SATA1_RXN/QSGMII_RXN_M0, U28 USB3_HOST1_SSRXP/SATA1_RXP/QSGMII_RXP_M0, V24 PCIE20_REFCLKP, V25 PCIE20_REFCLKN, V27 USB3_HOST1_SSTXN/SATA1_TXN/QSGMII_TXN_M0, V28 USB3_HOST1_SSTXP/SATA1_TXP/QSGMII_TXP_M0, W27 PCIE20_TXP/SATA2_TXP/QSGMII_TXP_M1, W28 PCIE20_TXN/SATA2_TXN/QSGMII_TXN_M1, Y27 PCIE20_RXP/SATA2_RXP/QSGMII_RXP_M1, Y28 PCIE20_RXN/SATA2_RXN/QSGMII_RXN_M1
part V pins: P9 USB2_AVDD_1V8, P10 USB2_AVDD_3V3, R1 USB2_HOST2_DM, R2 USB2_HOST2_DP, R8 USB2_AVDD_0V9, T1 USB2_HOST3_DM, T2 USB2_HOST3_DP
part W pins: AA25 PCIE30_REFCLKN_IN, AA27 PCIE30_TX0N, AA28 PCIE30_TX0P, AB27 PCIE30_TX1N, AB28 PCIE30_TX1P, AC27 PCIE30_RX0N, AC28 PCIE30_RX0P, AD27 PCIE30_RX1N, AD28 PCIE30_RX1P, U19 PCIE30_RESREF, U20 PCIE30_AVDD_0V9_2, U21 PCIE30_AVDD_0V9_1, U22 PCIE30_AVDD_1V8, Y25 PCIE30_REFCLKP_IN
part F text: DDR4; LPDDR4; DDR3; LPDDR3; /; DDR4_DQL0_A; LPDDR4_DQ0_A; DDR3_DQ0; LPDDR3_DQ15; DDR4_A0; LPDDR4_CLKP_B; DDR3_A9; ---; DDR4_DQL2_A; LPDDR4_DQ1_A; DDR3_DQ1; LPDDR3_DQ14; DDR4_A1; DDR3_A2; DDR4_DQL4_A; LPDDR4_DQ2_A; DDR3_DQ2; LPDDR3_DQ10; DDR4_A2; LPDDR4_A1_A; DDR3_A4; LPDDR3_A6; DDR4_DQL6_A; LPDDR4_DQ3_A; DDR3_DQ3; LPDDR3_DQ9; DDR4_A3; LPDDR4_CKE1_A; DDR3_A3; DDR4_DQL7_A; LPDDR4_DQ4_A; DDR3_DQ4; LPDDR3_DQ13; DDR4_DQL5_A; LPDDR4_DQ5_A; DDR3_DQ5; LPDDR3_DQ12; DDR4_A4; LPDDR4_A3_B; DDR3_BA1; LPDDR3_A3; DDR4_DQL3_A; LPDDR4_DQ6_A; DDR3_DQ6; LPDDR3_DQ8; DDR4_A5; LPDDR4_A5_B; DDR3_A11; LPDDR3_A2; DDR4_DQL1_A; LPDDR4_DQ7_A; DDR3_DQ7; LPDDR3_DQ11; DDR4_A6; LPDDR4_A1_B; DDR3_A13; LPDDR3_A1; DDR4_A7; LPDDR4_ODT0_CA_B; DDR3_A8; DDR4_DML_A; LPDDR4_DM0_A; DDR3_DM0; LPDDR3_DM1; DDR4_A8; LPDDR4_ODT0_CA_A; DDR3_A6; LPDDR3_A9; DDR4_DQSL_P_A; LPDDR4_DQS0P_A; DDR3_DQS0P; LPDDR3_DQS1P; DDR4_A9; LPDDR4_CLKN_B; DDR3_A5; DDR4_DQSL_N_A; LPDDR4_DQS0N_A; DDR3_DQS0N; LPDDR3_DQS1N; DDR4_A10; LPDDR4_CKE0_B; DDR3_A10; DDR4_A11; LPDDR4_A0_A; DDR3_A7; LPDDR3_A8; DDR4_DQU3_A; LPDDR4_DQ8_A; DDR3_DQ8; LPDDR3_DQ25; DDR4_A12; LPDDR4_A3_A; DDR3_BA2; DDR4_DQU1_A; LPDDR4_DQ9_A; DDR3_DQ9; LPDDR3_DQ24; DDR4_A13; LPDDR4_A0_B; DDR3_A14; LPDDR3_A0; DDR4_DQU7_A; LPDDR4_DQ10_A; DDR3_DQ10; LPDDR3_DQ28; DDR4_A14_WEn; LPDDR4_A4_A; DDR3_A15; LPDDR3_A5; DDR4_DQU5_A; LPDDR4_DQ11_A; DDR3_DQ11; LPDDR3_DQ29; DDR4_A15_CASn; LPDDR4_A2_A; DDR3_A0; DDR4_DQU2_A; LPDDR4_DQ12_A; DDR3_DQ12; LPDDR3_DQ26; DDR4_DQU4_A; LPDDR4_DQ13_A; DDR3_DQ13; LPDDR3_DQ31; DDR4_A16_RASn; LPDDR4_A5_A; DDR3_RASn; LPDDR3_A7; DDR4_DQU6_A; LPDDR4_DQ14_A; DDR3_DQ14; LPDDR3_DQ30; DDR4_ACTn; LPDDR4_CKE1_B; DDR3_CASn; DDR4_DQU0_A; LPDDR4_DQ15_A; DDR3_DQ15; LPDDR3_DQ27; DDR4_BA0; LPDDR4_A2_B; DDR3_A1; DDR4_BA1; LPDDR4_A4_B; DDR3_A12; LPDDR3_A4; DDR4_DMU_A; LPDDR4_DM1_A; DDR3_DM1; LPDDR3_DM3; DDR4_BG0; LPDDR4_ODT1_CA_B; DDR3_WEn; DDR4_DQSU_P_A; LPDDR4_DQS1P_A; DDR3_DQS1P; LPDDR3_DQS3P; DDR4_BG1; LPDDR4_ODT1_CA_A; DDR3_BA0; DDR4_DQSU_N_A; LPDDR4_DQS1N_A; DDR3_DQS1N; LPDDR3_DQS3N; DDR4_CKE; LPDDR4_CKE0_A; DDR3_CKE; LPDDR3_CKE; DDR4_CLKP; LPDDR4_CLKP_A; DDR3_CLKP; LPDDR3_CLKP; DDR4_DQU7_B; LPDDR4_DQ0_B; DDR3_DQ16; LPDDR3_DQ1; DDR4_CLKN; LPDDR4_CLKN_A; DDR3_CLKN; LPDDR3_CLKN; DDR4_DQU5_B; LPDDR4_DQ1_B; DDR3_DQ17; LPDDR3_DQ5; DDR4_DQU3_B; LPDDR4_DQ2_B; DDR3_DQ18; LPDDR3_DQ6; DDR4_CS0n; LPDDR4_CS0n_A; DDR3_ODT1; LPDDR3_ODT0; DDR4_DQU1_B; LPDDR4_DQ3_B; DDR3_DQ19; LPDDR3_DQ4; DDR4_CS1n; LPDDR4_CS1n_A; DDR3_CS1n; LPDDR3_ODT1; DDR4_DQU0_B; LPDDR4_DQ4_B; DDR3_DQ20; LPDDR3_DQ2; DDR4_ODT0; LPDDR4_CS1n_B; DDR3_ODT0; LPDDR3_CS1n; DDR4_DQU6_B; LPDDR4_DQ5_B; DDR3_DQ21; LPDDR3_DQ3; DDR4_ODT1; LPDDR4_CS0n_B; DDR3_CS0n; LPDDR3_CS0n; DDR4_DQU4_B; LPDDR4_DQ6_B; DDR3_DQ22; LPDDR3_DQ7; DDR4_DQU2_B; LPDDR4_DQ7_B; DDR3_DQ23; LPDDR3_DQ0; DDR4_RESETn; LPDDR4_RESETn; DDR3_RESETn; DDR4_DMU_B; LPDDR4_DM0_B; DDR3_DM2; LPDDR3_DM0; Note: Sequences can not be swap; DDR4_DQSU_P_B; LPDDR4_DQS0P_B; DDR3_DQS2P; LPDDR3_DQS0P; DDR4_DQSU_N_B; LPDDR4_DQS0N_B; DDR3_DQS2N; LPDDR3_DQS0N; DDR4_DQL0_B; LPDDR4_DQ8_B; DDR3_DQ24; LPDDR3_DQ18; DDR4_DQL2_B; LPDDR4_DQ9_B; DDR3_DQ25; LPDDR3_DQ19; DDR4_DQL4_B; LPDDR4_DQ10_B; DDR3_DQ26; LPDDR3_DQ22; DDR4_DQL6_B; LPDDR4_DQ11_B; DDR3_DQ27; LPDDR3_DQ23; DDR4_DQL7_B; LPDDR4_DQ12_B; DDR3_DQ28; LPDDR3_DQ16; DDR4_DQL5_B; LPDDR4_DQ13_B; DDR3_DQ29; LPDDR3_DQ17; DDR4_DQL1_B; LPDDR4_DQ14_B; DDR3_DQ30; LPDDR3_DQ20; DDR4_DQL3_B; LPDDR4_DQ15_B; DDR3_DQ31; LPDDR3_DQ21; DDR3L   =1.35V; DDR3    =1.5V; DDR4_DML_B; LPDDR4_DM1_B; DDR3_DM3; LPDDR3_DM2; DDR4    =1.2V; LPDDR3  =1.2V; DDR4_DQSL_P_B; LPDDR4_DQS1P_B; DDR3_DQS3P; LPDDR3_DQS2P; LPDDR4  =1.1V; DDR4_DQSL_N_B; LPDDR4_DQS1N_B; DDR3_DQS3N; LPDDR3_DQS2N; LPDDR4x =1.1V; DDR4_ECC_DQ7; --; DDR3_ECC_DQ0; DDR4_ECC_DQ0; DDR3_ECC_DQ1; DDR4_ECC_DQ2; DDR3_ECC_DQ2; DDR4_ECC_DQ1; DDR3_ECC_DQ3; DDR4_ECC_DQ6; DDR3_ECC_DQ4; DDR4_ECC_DQ4; DDR3_ECC_DQ5; DDR4_ECC_DQ3; DDR3_ECC_DQ6; DDR4_ECC_DQ5; DDR3_ECC_DQ7; LPDDR4x; DDR4_ECC_DM; DDR3_ECC_DM; Note:; DDR4_ECC_DQS_P; DDR3_ECC_DQS_P; Except DDR3, other DQ sequences; can not be swap; DDR4_ECC_DQS_N; DDR3_ECC_DQS_N
part G text: OSC; PMUIO1 Domain; Operating Voltage=3.3V Only; REFCLK_OUT; /; TSADC_SHUT_M0; TSADC_SHUT_ORG; PMIC_SLEEP; TSADC_SHUT_M1; Operating Voltage; SDMMC0_DET; SATA_CP_DET; PCIE30X1_CLKREQn_M0; SDMMC0_PWREN; SATA_MP_SWITCH; PCIE20_CLKREQn_M0; GPU_PWREN; SATA_CP_POD; PCIE30X2_CLKREQn_M0; FLASH_VOL_SEL; PMU PLL; PMUIO2 Domain; Operating Voltage=1.8V/3.3V; CLK32K_IN; CLK32K_OUT0; PCIE30X2_BUTTONRSTn; I2C0_SCL; I2C0_SDA; I2C1_SCL; CAN0_TX_M0; PCIE30X1_BUTTONRSTn; MCU_JTAG_TDO; I2C1_SDA; CAN0_RX_M0; PCIE20_BUTTONRSTn; MCU_JTAG_TCK; I2C2_SCL_M0; SPI0_CLK_M0; PCIE20_WAKEn_M0; PWM1_M1; I2C2_SDA_M0; SPI0_MOSI_M0; PCIE20_PERSTn_M0; PWM2_M1; PWM0_M0; CPUAVS; PWM1_M0; GPUAVS; UART0_RX; PWM2_M0; NPUAVS; UART0_TX; MCU_JTAG_TDI; PWM3_IR; EDP_HPDIN_M1; PCIE30X1_WAKEn_M0; MCU_JTAG_TMS; PWM4; VOP_PWM_M0; PCIE30X1_PERSTn_M0; MCU_JTAG_TRSTn; PWM5; SPI0_CS1_M0; UART0_RTSn; PWM6; SPI0_MISO_M0; PCIE30X2_WAKEn_M0; PWM7_IR; SPI0_CS0_M0; PCIE30X2_PERSTn_M0; SYS PLL; HDMITX_CEC_M1; PWM0_M1; UART0_CTSN; UART2_RX_M0; UART2_TX_M0; PMUIO1/2/OSC Domain Logic Power; Operating Voltage=0.9V
part H text: VCCIO1 Domain; Operating Voltage=1.8V/3.3V; I2C3_SDA_M0; /; UART3_RX_M0; CAN1_RX_M0; AUDIOPWM_LOUT_P; ACODEC_ADC_DATA; I2C3_SCL_M0; UART3_TX_M0; CAN1_TX_M0; AUDIOPWM_LOUT_N; ACODEC_ADC_CLK; I2S1_MCLK_M0; UART3_RTSn_M0; SCR_CLK; PCIE30X1_PERSTn_M2; I2S1_SCLK_TX_M0; UART3_CTSn_M0; SCR_IO; PCIE30X1_WAKEn_M2; ACODEC_DAC_CLK; I2S1_SCLK_RX_M0; UART4_RX_M0; PDM_CLK1_M0; SPDIF_TX_M0; I2S1_LRCK_TX_M0; UART4_RTSn_M0; SCR_RST; PCIE30X1_CLKREQn_M2; ACODEC_DAC_SYNC; I2S1_LRCK_RX_M0; UART4_TX_M0; PDM_CLK0_M0; AUDIOPWM_ROUT_P; I2S1_SDO0_M0; UART4_CTSn_M0; SCR_DET; AUDIOPWM_ROUT_N; ACODEC_DAC_DATAL; I2S1_SDO1_M0; I2S1_SDI3_M0; PDM_SDI3_M0; PCIE20_CLKREQn_M2; ACODEC_DAC_DATAR; I2S1_SDO2_M0; I2S1_SDI2_M0; PDM_SDI2_M0; PCIE20_WAKEn_M2; ACODEC_ADC_SYNC; I2S1_SDO3_M0; I2S1_SDI1_M0; PDM_SDI1_M0; PCIE20_PERSTn_M2; I2S1_SDI0_M0; PDM_SDI0_M0
part I text: VCCIO2 Domain; Operating Voltage=1.8V/3.3V; EMMC_D0; /; FLASH_D0; EMMC_D1; FLASH_D1; EMMC_D2; FLASH_D2; EMMC_D3; FLASH_D3; EMMC_D4; FLASH_D4; EMMC_D5; FLASH_D5; EMMC_D6; FLASH_D6; EMMC_D7; FLASH_D7; EMMC_CMD; FLASH_WRn; EMMC_CLKOUT; FLASH_DQS; EMMC_DATA_STROBE; FSPI_CS1n; FLASH_CLE; EMMC_RSTn; FSPI_D2; FLASH_WPn; FSPI_CLK; FLASH_ALE; FSPI_D0; FLASH_RDY; FSPI_D1; FLASH_RDn; FSPI_CS0n; FLASH_CS0n; FSPI_D3; FLASH_CS1n; Default is determined by Pin; FLASH_VOL_SEL/GPIO0_A7_u:; L:VCCIO2 must supply 3.3V; H:VCCIO2 must supply 1.8V
part J text: VCCIO3 Domain; Operating Voltage=1.8V/3.3V; SDMMC0_D0; /; UART2_TX_M1; UART6_TX_M1; PWM8_M1; SDMMC0_D1; UART2_RX_M1; UART6_RX_M1; PWM9_M1; SDMMC0_D2; ARMJTAG_TCK; UART5_CTSn_M0; SDMMC0_D3; ARMJTAG_TMS; UART5_RTSn_M0; SDMMC0_CMD; PWM10_M1; UART5_RX_M0; CAN0_TX_M1; SDMMC0_CLK; TEST_CLKOUT; UART5_TX_M0; CAN0_RX_M1
part K text: VCCIO4 Domain; Operating Voltage=1.8V/3.3V; SDMMC1_D0; /; GMAC0_RXD2; UART6_RX_M0; SDMMC1_D1; GMAC0_RXD3; UART6_TX_M0; SDMMC1_D2; GMAC0_RXCLK; UART7_RX_M0; SDMMC1_D3; GMAC0_TXD2; UART7_TX_M0; SDMMC1_CMD; GMAC0_TXD3; UART9_RX_M0; SDMMC1_CLK; GMAC0_TXCLK; UART9_TX_M0; SDMMC1_PWREN; I2C4_SDA_M1; UART8_RTSn_M0; CAN2_RX_M1; SDMMC1_DET; I2C4_SCL_M1; UART8_CTSn_M0; CAN2_TX_M1; GMAC0_TXD0; UART1_RX_M0; GMAC0_TXD1; UART1_TX_M0; GMAC0_TXEN; UART1_RTSn_M0; SPI1_CLK_M0; GMAC0_RXD0; UART1_CTSn_M0; SPI1_MISO_M0; I2S2_SCLK_RX_M0; GMAC0_RXD1; UART6_RTSn_M0; SPI1_MOSI_M0; I2S2_LRCK_RX_M0; GMAC0_RXDV_CRS; UART6_CTSn_M0; SPI1_CS0_M0; I2S2_MCLK_M0; ETH0_REFCLKO_25M; UART7_RTSn_M0; SPI2_CLK_M0; I2S2_SCLK_TX_M0; GMAC0_MCLKINOUT; UART7_CTSn_M0; SPI2_MISO_M0; I2S2_LRCK_TX_M0; GMAC0_MDC; UART9_RTSn_M0; SPI2_MOSI_M0; I2S2_SDO_M0; GMAC0_MDIO; UART9_CTSn_M0; SPI2_CS0_M0; I2S2_SDI_M0; GMAC0_RXER; UART8_TX_M0; SPI2_CS1_M0; CLK32K_OUT1; UART8_RX_M0; SPI1_CS1_M0
part L text: VCCIO5 Domain; Operating Voltage=1.8V/3.3V; LCDC_D0; /; VOP_BT656_D0_M0; SPI0_MISO_M1; PCIE20_CLKREQn_M1; I2S1_MCLK_M2; LCDC_D1; VOP_BT656_D1_M0; SPI0_MOSI_M1; PCIE20_WAKEn_M1; I2S1_SCLK_TX_M2; LCDC_D2; VOP_BT656_D2_M0; SPI0_CS0_M1; PCIE30X1_CLKREQn_M1; I2S1_LRCK_TX_M2; LCDC_D3; VOP_BT656_D3_M0; SPI0_CLK_M1; PCIE30X1_WAKEn_M1; I2S1_SDI0_M2; LCDC_D4; VOP_BT656_D4_M0; SPI2_CS1_M1; PCIE30X2_CLKREQn_M1; I2S1_SDI1_M2; LCDC_D5; VOP_BT656_D5_M0; SPI2_CS0_M1; PCIE30X2_WAKEn_M1; I2S1_SDI2_M2; LCDC_D6; VOP_BT656_D6_M0; SPI2_MOSI_M1; PCIE30X2_PERSTn_M1; I2S1_SDI3_M2; LCDC_D7; VOP_BT656_D7_M0; SPI2_MISO_M1; UART8_TX_M1; I2S1_SDO0_M2; LCDC_CLK; VOP_BT656_CLK_M0; SPI2_CLK_M1; UART8_RX_M1; I2S1_SDO1_M2; LCDC_D8; VOP_BT1120_D0; SPI1_CS0_M1; PCIE30X1_PERSTn_M1; SDMMC2_D0_M1; LCDC_D9; VOP_BT1120_D1; GMAC1_TXD2_M0; I2S3_MCLK_M0; SDMMC2_D1_M1; LCDC_D10; VOP_BT1120_D2; GMAC1_TXD3_M0; I2S3_SCLK_M0; SDMMC2_D2_M1; LCDC_D11; VOP_BT1120_D3; GMAC1_RXD2_M0; I2S3_LRCK_M0; SDMMC2_D3_M1; LCDC_D12; VOP_BT1120_D4; GMAC1_RXD3_M0; I2S3_SDO_M0; SDMMC2_CMD_M1; LCDC_D13; VOP_BT1120_CLK; GMAC1_TXCLK_M0; I2S3_SDI_M0; SDMMC2_CLK_M1; LCDC_D14; VOP_BT1120_D5; GMAC1_RXCLK_M0; SDMMC2_DET_M1; LCDC_D15; VOP_BT1120_D6; ETH1_REFCLKO_25M_M0; SDMMC2_PWREN_M1; LCDC_D16; VOP_BT1120_D7; GMAC1_RXD0_M0; UART4_RX_M1; PWM8_M0; LCDC_D17; VOP_BT1120_D8; GMAC1_RXD1_M0; UART4_TX_M1; PWM9_M0; LCDC_D18; VOP_BT1120_D9; GMAC1_RXDV_CRS_M0; I2C5_SCL_M0; PDM_SDI0_M2; LCDC_D19; VOP_BT1120_D10; GMAC1_RXER_M0; I2C5_SDA_M0; PDM_SDI1_M2; LCDC_D20; VOP_BT1120_D11; GMAC1_TXD0_M0; I2C3_SCL_M1; PWM10_M0; LCDC_D21; VOP_BT1120_D12; GMAC1_TXD1_M0; I2C3_SDA_M1; PWM11_IR_M0; LCDC_D22; PWM12_M0; GMAC1_TXEN_M0; UART3_TX_M1; PDM_SDI2_M2; LCDC_D23; PWM13_M0; GMAC1_MCLKINOUT_M0; UART3_RX_M1; PDM_SDI3_M2; LCDC_HSYNC; VOP_BT1120_D13; SPI1_MOSI_M1; PCIE20_PERSTn_M1; I2S1_SDO2_M2; LCDC_VSYNC; VOP_BT1120_D14; SPI1_MISO_M1; UART5_TX_M1; I2S1_SDO3_M2; LCDC_DEN; VOP_BT1120_D15; SPI1_CLK_M1; UART5_RX_M1; I2S1_SCLK_RX_M2; PWM14_M0; VOP_PWM_M1; GMAC1_MDC_M0; UART7_TX_M1; PDM_CLK1_M2; PWM15_IR_M0; SPDIF_TX_M1; GMAC1_MDIO_M0; UART7_RX_M1; I2S1_LRCK_RX_M2
part M text: VCCIO6 Domain; Operating Voltage=1.8V/3.3V; CIF_D0; /; EBC_SDDO0; SDMMC2_D0_M0; I2S1_MCLK_M1; VOP_BT656_D0_M1; CIF_D1; EBC_SDDO1; SDMMC2_D1_M0; I2S1_SCLK_TX_M1; VOP_BT656_D1_M1; CIF_D2; EBC_SDDO2; SDMMC2_D2_M0; I2S1_LRCK_TX_M1; VOP_BT656_D2_M1; CIF_D3; EBC_SDDO3; SDMMC2_D3_M0; I2S1_SDO0_M1; VOP_BT656_D3_M1; CIF_D4; EBC_SDDO4; SDMMC2_CMD_M0; I2S1_SDI0_M1; VOP_BT656_D4_M1; CIF_D5; EBC_SDDO5; SDMMC2_CLK_M0; I2S1_SDI1_M1; VOP_BT656_D5_M1; CIF_D6; EBC_SDDO6; SDMMC2_DET_M0; I2S1_SDI2_M1; VOP_BT656_D6_M1; CIF_D7; EBC_SDDO7; SDMMC2_PWREN_M0; I2S1_SDI3_M1; VOP_BT656_D7_M1; CIF_D8; EBC_SDDO8; GMAC1_TXD2_M1; UART1_TX_M1; PDM_CLK0_M1; CIF_D9; EBC_SDDO9; GMAC1_TXD3_M1; UART1_RX_M1; PDM_SDI0_M1; CIF_D10; EBC_SDDO10; GMAC1_TXCLK_M1; PDM_CLK1_M1; CIF_D11; EBC_SDDO11; GMAC1_RXD2_M1; PDM_SDI1_M1; CIF_D12; EBC_SDDO12; GMAC1_RXD3_M1; UART7_TX_M2; PDM_SDI2_M1; CIF_D13; EBC_SDDO13; GMAC1_RXCLK_M1; UART7_RX_M2; PDM_SDI3_M1; CIF_D14; EBC_SDDO14; GMAC1_TXD0_M1; UART9_TX_M2; I2S2_LRCK_TX_M1; CIF_D15; EBC_SDDO15; GMAC1_TXD1_M1; UART9_RX_M2; I2S2_LRCK_RX_M1; ISP_FLASHTRIGOUT; EBC_SDCE0; GMAC1_TXEN_M1; SPI3_CS0_M0; I2S1_SCLK_RX_M1; CAM_CLKOUT0; EBC_SDCE1; GMAC1_RXD0_M1; SPI3_CS1_M0; I2S1_LRCK_RX_M1; CAM_CLKOUT1; EBC_SDCE2; GMAC1_RXD1_M1; SPI3_MISO_M0; I2S1_SDO1_M1; ISP_PRELIGHT_TRIG; EBC_SDCE3; GMAC1_RXDV_CRS_M1; I2S1_SDO2_M1; I2C4_SDA_M0; EBC_VCOM; GMAC1_RXER_M1; SPI3_MOSI_M0; I2S2_SDI_M1; I2C4_SCL_M0; EBC_GDOE; ETH1_REFCLKO_25M_M1; SPI3_CLK_M0; I2S2_SDO_M1; I2C2_SDA_M1; EBC_GDSP; CAN2_RX_M0; ISP_FLASH_TRIGIN; VOP_BT656_CLK_M1; I2C2_SCL_M1; EBC_SDSHR; CAN2_TX_M0; I2S1_SDO3_M1; CIF_HREF; EBC_SDLE; GMAC1_MDC_M1; UART1_RTSn_M1; I2S2_MCLK_M1; CIF_VSYNC; EBC_SDOE; GMAC1_MDIO_M1; I2S2_SCLK_TX_M1; CIF_CLKOUT; EBC_GDCLK; PWM11_IR_M1; CIF_CLKIN; EBC_SDCLK; GMAC1_MCLKINOUT_M1; UART1_CTSn_M1; I2S2_SCLK_RX_M1
part N text: VCCIO7 Domain; Operating Voltage=1.8V/3.3V; PWM14_M1; /; SPI3_CLK_M1; CAN1_RX_M1; PCIE30X2_CLKREQn_M2; I2S3_MCLK_M1; PWM15_IR_M1; SPI3_MOSI_M1; CAN1_TX_M1; PCIE30X2_WAKEn_M2; I2S3_SCLK_M1; EDP_HPDIN_M0; SPDIF_TX_M2; SATA2_ACT_LED; PCIE30X2_PERSTn_M2; I2S3_LRCK_M1; PWM12_M1; SPI3_MISO_M1; SATA1_ACT_LED; UART9_TX_M1; I2S3_SDO_M1; PWM13_M1; SPI3_CS0_M1; SATA0_ACT_LED; UART9_RX_M1; I2S3_SDI_M1; HDMITX_SCL; I2C5_SCL_M1; HDMITX_SDA; I2C5_SDA_M1; HDMITX_CEC_M0; SPI3_CS1_M1
part O text: SARADC; Recovery/; OTP
part P text: MIPI CSI RX
part Q text: HDMI2.0 TX
part R text: MIPI DSI TX0/LVDS TX0
part S text: MIPI DSI TX1
part T text: eDP_TX
part U text: USB3.0; OTG0_HS/FS/LS; (USB Download); HOST1_HS/FS/LS; OTG0/HOST1_; HS/FS/LS; Power; MULTI_PHY0/1/2; USB3.0 OTG0_SS; and SATA0 Mux; MULTI PHY0; USB3.0 HOST1_SS and SATA1; and QSGMII_M0 Mux; MULTI PHY1; PCIe2.0 and SATA2; and QSGMII_M1 Mux; MULTI PHY2; MULTI_PHY; REFCLK
part V text: USB2.0 HOST
part W text: PCIe3.0 x 2

## RTL8211F-CG
designator U?
Symbol: RTL8211F-CG; AddInBom: yes; Device: RTL8211F-CG; ConvertToPcb: yes; FootprintName: RTL8211F-CG
footprint RTL8211F-CG
pins: 1 MDIP0, 2 MDIN0, 3 AVDD10, 4 MDIP1, 5 MDIN1, 6 MDIP2, 7 MDIN2, 8 AVDD10, 9 MDIP3, 10 MDIN3, 11 AVDD33, 12 PHYRSTB, 13 MDC, 14 MDIO, 15 TXD3, 16 TXD2, 17 TXD1, 18 TXD0, 19 TXCTL, 20 TXCLK, 21 DVDD10, 22 RXD3_PHYAD0, 23 RXD2_PLLOFF, 24 RXD1_TXDLY, 25 RXD0_RXDLY, 26 RXCTL_PHYAD2, 27 RXCLK_PHYAD1, 28 DVDD_RG, 29 DVDD33, 30 REG_OUT, 31 INT, 32 LED0_CFG_EXT, 33 LED1_CFG_LD0, 34 LED2_CFG_LDO1, 35 CLKOUT, 36 XTAL_IN, 37 XTAL_OUT_EXT_CLK, 38 AVDD10, 39 RSET, 40 AVDD33, 41 E-PAD

## SS34_C7420365
designator D?, comment SS34
二极管配置:独立式;正向压降(Vf):550mV@3.0A;直流反向耐压(Vr):40V;平均整流电流(Io):3A;; Manufacturer: 宏迦橙; Symbol: SS34_C7420365; AddInBom: yes; ModelId: 7e24bebe6cd74171ae8c9de6fc5b78aa; ModelName: SMA_L4.3-W2.6-LS5.0-FD; ModelTransform: 198.4248,103.5431,0,180,0,0,0,0,0; Diode Configuration: 独立式; Reverse Voltage (Vr): 40V; Average Rectified Current (Io): 3A; Reverse Leakage Current (Ir): 200uA@40V; Peak forward surge current: 80A; Device: SS34_C7420365; LCSC Part Name: 电压:40V 电流:3A; SupplierPart: C7420365; ManufacturerPart: SS34; Supplier Footprint: SMA(DO-214AC); JLCPCB Part Class: 扩展库; Datasheet: https://atta.szlcsc.com/upload/public/pdf/source/20230828/75438452AEE6C276EDA92B2AF599BE05.pdf; Supplier: LCSC; ConvertToPcb: yes; FootprintName: SMA_L4.3-W2.6-LS5.0-FD; Forward Voltage (Vf@If): 550mV@3.0A
footprint SMA_L4.3-W2.6-LS5.0-FD
pins: 1 A, 2 K

## SS54B_C18199181
designator D?, comment SS54B
二极管配置:独立式;正向压降(Vf):550mV@5.0A;直流反向耐压(Vr):40V;整流电流:5A;; Manufacturer: 宏嘉诚; Symbol: SS54B_C18199181; AddInBom: yes; ModelId: 892cc756ed79448ab4afad0e5bfcdfa6; ModelName: SMB_L4.6-W3.6-LS5.3-RD; ModelTransform: 212.598,141.732,0,0,0,0,0,0,0; Diode Configuration: 独立式; Voltage - DC Reverse(Vr): 40V; Current - Rectified: 5A; Reverse Leakage Current (Ir): 200uA@40V; Operating Junction Temperature Range: -55℃~+125℃; Non-Repetitive Peak Forward Surge Current: 120A; Device: SS54B_C18199181; LCSC Part Name: 电压:40V 电流:5A; SupplierPart: C18199181; ManufacturerPart: SS54B; Supplier Footprint: SMB; JLCPCB Part Class: 扩展库; Datasheet: https://item.szlcsc.com/datasheet/SS54B/19354413.html; Supplier: LCSC; ConvertToPcb: yes; FootprintName: SMB_L4.6-W3.6-LS5.3-RD; Voltage - Forward(Vf@If): 550mV@5.0A
footprint SMB_L4.6-W3.6-LS5.3-RD
pins: 1 K, 2 A

## SWPA3015S2R2MT
designator L?, comment NC
电感值:2.2uH;精度:±20%;额定电流:2A;直流电阻(DCR):-;; Manufacturer: Sunlord(顺络); Device: SWPA3015S2R2MT; Add into BOM: no; ConvertToPcb: yes; ModelId: 67451da4701445baa335959290a67a23; ModelName: IND-SMD_L3.0-W3.0-H1.5; ModelTransform: 118.11,118.8974,0,90,0,0,0,0,0; Tolerance: ±20%; Rated Current: 2A; Supplier Part: NC; Value: NC; Symbol: SWPA3015S2R2MT; LCSC Part Name: 2.2uH ±20% 2A; ManufacturerPart: SWPA3015S2R2MT; Supplier Footprint: SMD; JLCPCB Part Class: Extended Part; Datasheet: https://atta.szlcsc.com/upload/public/pdf/source/20210916/AC798BA7E846B7D0B6818F45CD84DB0B.pdf; Supplier: LCSC; FootprintName: IND-SMD_L3.0-W3.0; DC Resistance (DCR): -
footprint IND-SMD_L3.0-W3.0
pins: 1, 2